# Altium schematic symbol library SamacSys.SchLib: 1311 symbols (part 5 of 14)
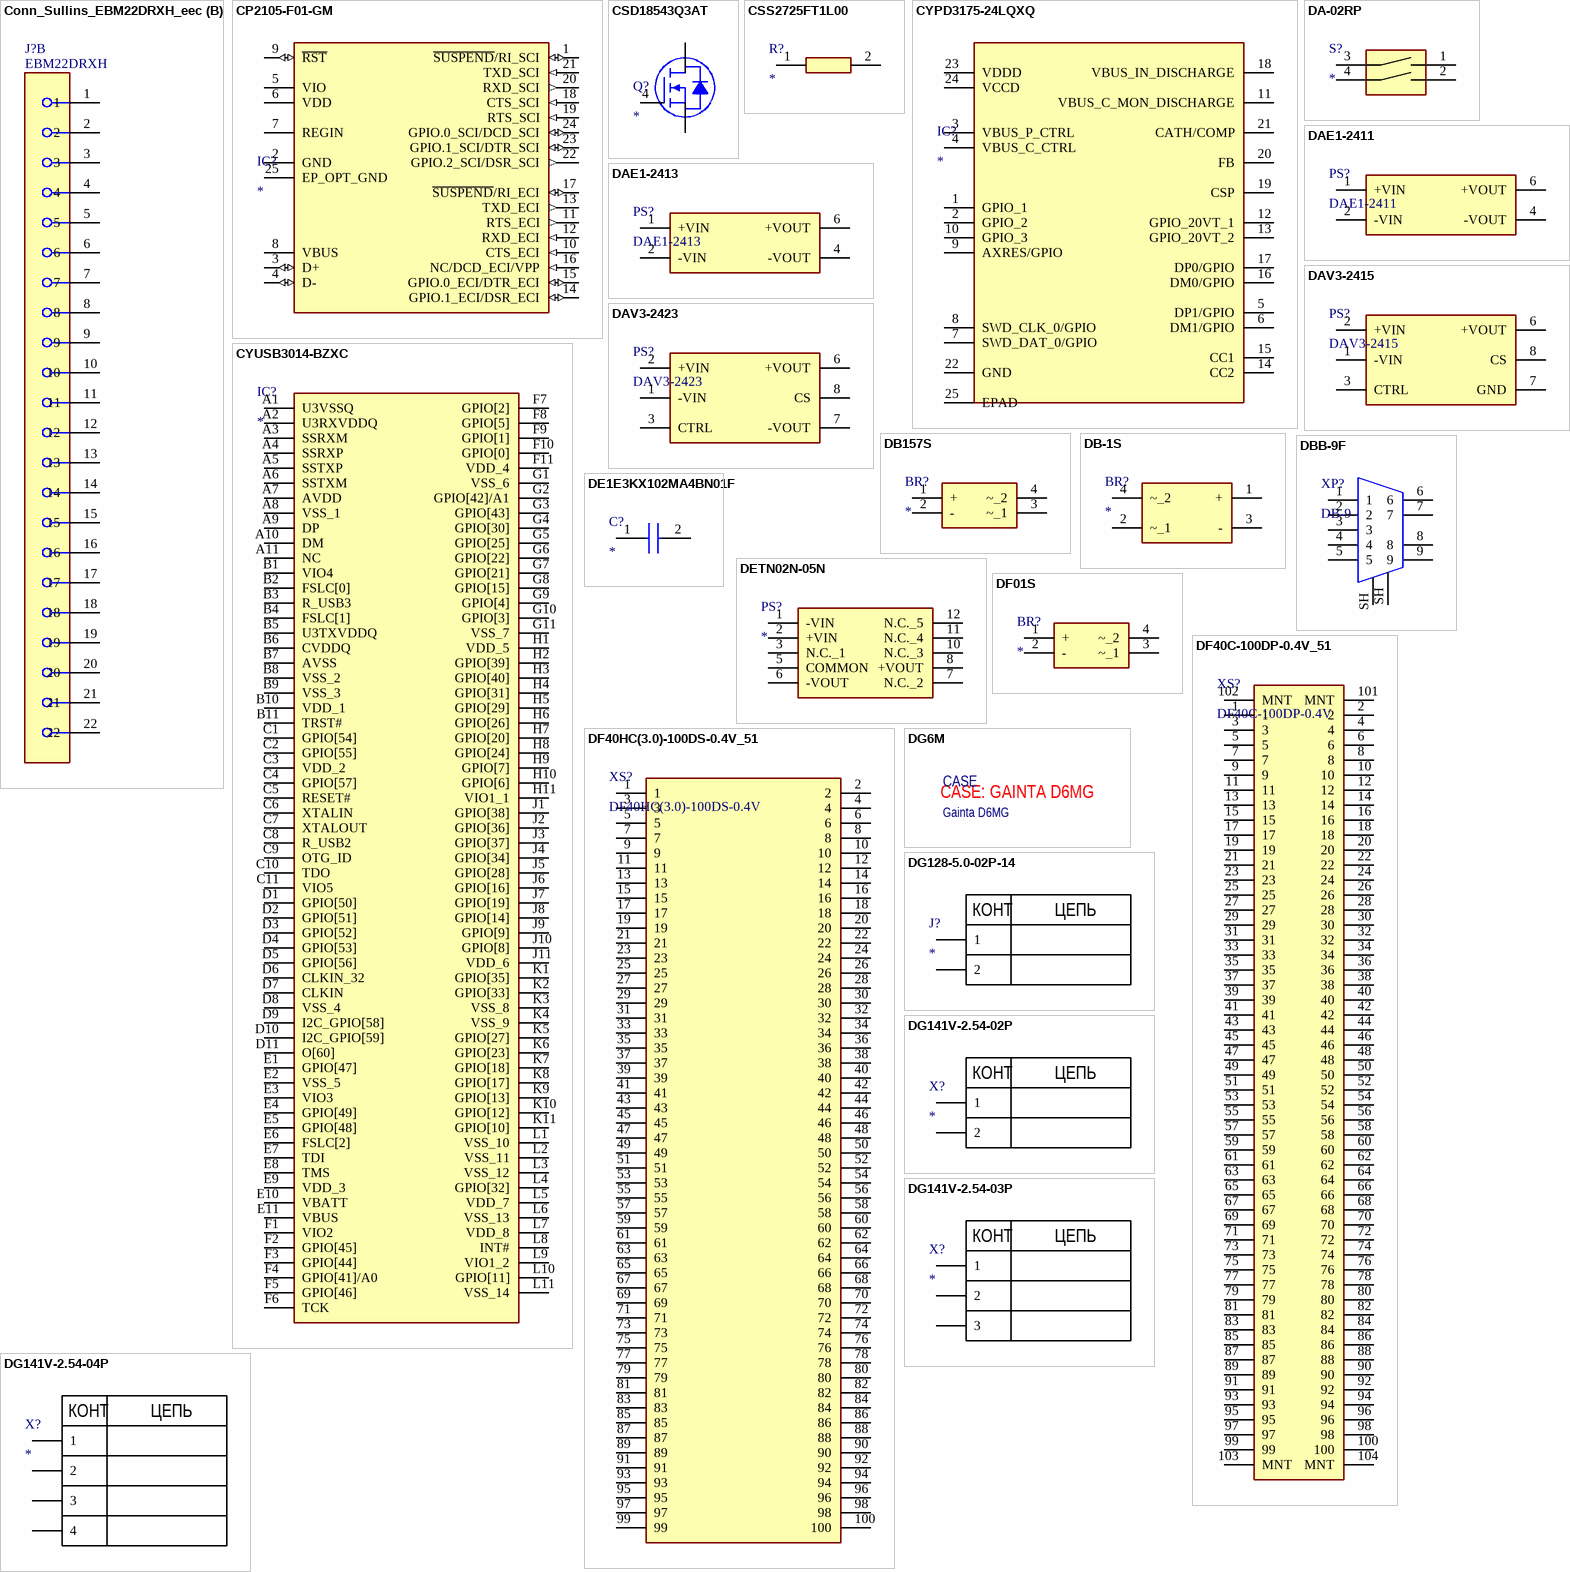
[diagram p54: symbols Conn_Sullins_EBM22DRXH_eec to DG141V-2.54-04P]

## DG6M
designator CASE, comment Gainta D6MG  (mechanical)
Plastic DIN-rail case; Value: Gainta D6MG; Manufacturer: Gainta; Part Number: D6MG; ComponentLink1Description: New link; ComponentLink1URL: https://static.chipdip.ru/lib/920/DOC023920435.pdf
text: CASE: GAINTA D6MG

## DG128-5.0-02P-14
designator J?
Connector; Manufacturer_Name: Degson; Manufacturer_Part_Number: DG128-5.0-02P-14; Datasheet Link: https://www.degson.com/index.php?a=downloadFile&id=1097383&name=%27ZmlsZTQ=%27&lang=en; Height: 14.26mm
footprint DG128-5.0-02P-14
pins: 1, 2
text: КОНТ; ЦЕПЬ

## DG141V-2.54-02P
designator X?
Connector; Manufacturer_Name: DEGSON; Manufacturer_Part_Number: DG141V-2.54-02P; Datasheet Link: file:///C:/Users/Golubev/Downloads/DG141V-2.54-XXP-1Y-00A(H)-l.pdf
footprint DG141V-02P
pins: 1, 2
text: КОНТ; ЦЕПЬ

## DG141V-2.54-03P
designator X?
Connector; Manufacturer_Name: DEGSON; Manufacturer_Part_Number: DG141V-2.54-04P; Datasheet Link: file:///C:/Users/Golubev/Downloads/DG141V-2.54-XXP-1Y-00A(H)-l.pdf
footprint DG141V-04P
pins: 1, 2, 3
text: КОНТ; ЦЕПЬ

## DG141V-2.54-04P
designator X?
Connector; Manufacturer_Name: DEGSON; Manufacturer_Part_Number: DG141V-2.54-04P; Datasheet Link: file:///C:/Users/Golubev/Downloads/DG141V-2.54-XXP-1Y-00A(H)-l.pdf
footprint DG141V-04P
pins: 1, 2, 3, 4
text: КОНТ; ЦЕПЬ

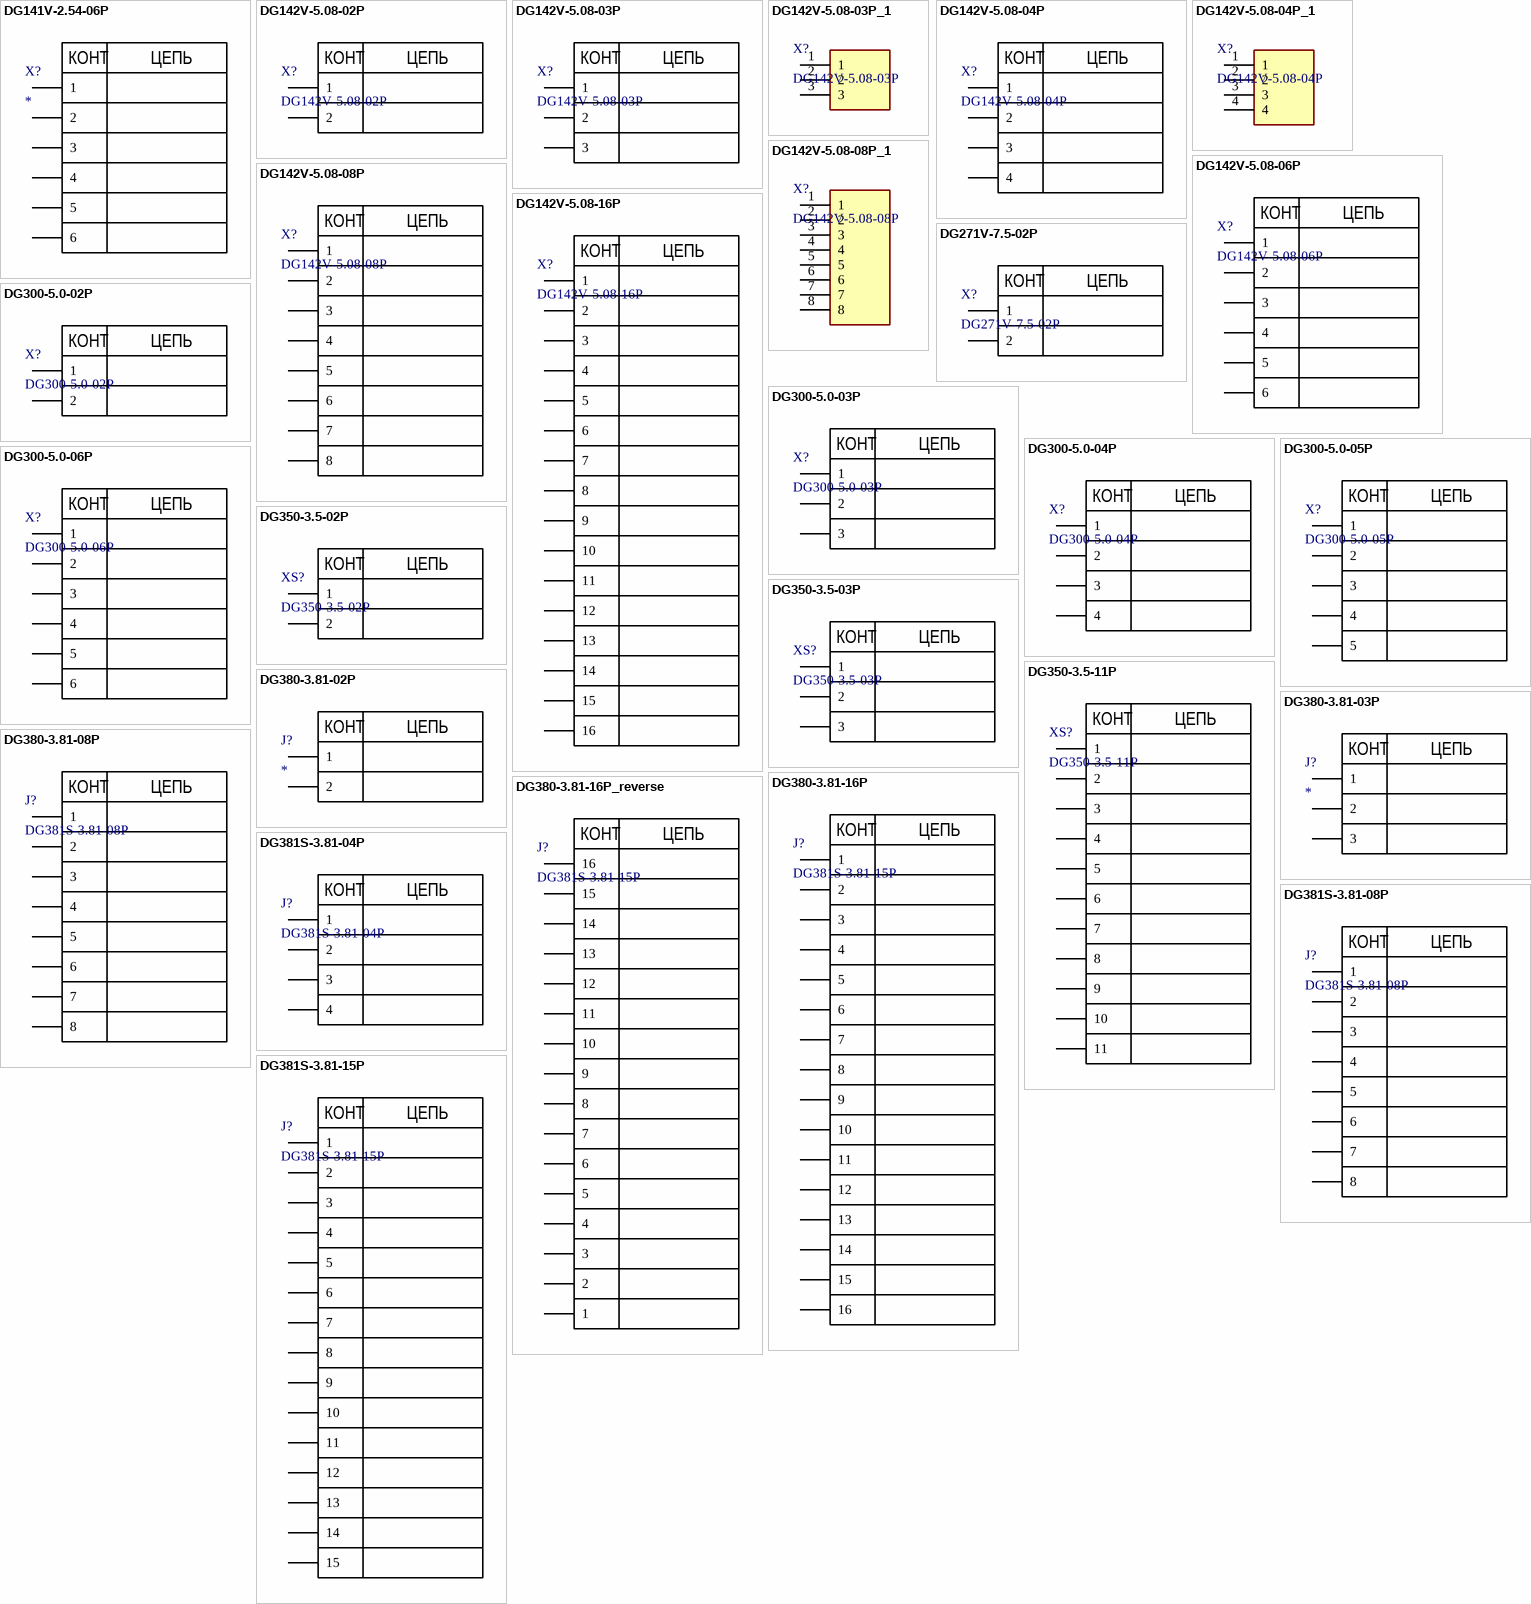
[diagram p13: symbols DG141V-2.54-06P to DG381S-3.81-15P]

## DG141V-2.54-06P
designator X?
Connector; Manufacturer_Name: DEGSON; Manufacturer_Part_Number: DG141V-2.54-06P; Datasheet Link: file:///C:/Users/Golubev/Downloads/DG141V-2.54-XXP-1Y-00A(H)-l.pdf
footprint DG141V-06P
pins: 1, 2, 3, 4, 5, 6
text: КОНТ; ЦЕПЬ

## DG142V-5.08-02P
designator X?
Connector; Manufacturer_Name: Degson; Datasheet Link: https://oss.degson.com/upload/pdf/20211003/20211003190604_7549.pdf; Height: 14.1mm; Manufacturer_Part_Number: DG142V-5.08-02P
footprint DG142V-5.08-02P; pin to pad 1>1+3 2>2+4
pins: 1, 2
text: КОНТ; ЦЕПЬ

## DG142V-5.08-03P
designator X?
Connector; Manufacturer_Name: Degson; Manufacturer_Part_Number: DG142V-5.08-02P; Datasheet Link: https://oss.degson.com/upload/pdf/20211003/20211003190604_7549.pdf; Height: 14.1mm
footprint DG142V-5.08-03P; pin to pad 1>1+4 2>2+5 3>3+6
pins: 1, 2, 3
text: КОНТ; ЦЕПЬ

## DG142V-5.08-03P_1
designator X?, comment DG142V-5.08-03P
Connector; Manufacturer_Name: Degson; Manufacturer_Part_Number: DG142V-5.08-02P; Datasheet Link: https://oss.degson.com/upload/pdf/20211003/20211003190604_7549.pdf; Height: 14.1mm
footprint DG142V-5.08-03P; pin to pad 1>1+4 2>2+5 3>3+6
pins: 1, 2, 3

## DG142V-5.08-04P
designator X?
Connector; Manufacturer_Name: Degson; Manufacturer_Part_Number: DG142V-5.08-02P; Datasheet Link: https://oss.degson.com/upload/pdf/20211003/20211003190604_7549.pdf; Height: 14.1mm
footprint DG142V-5.08-04P; pin to pad 1>1+5 2>2+6 3>3+7 4>4+8
pins: 1, 2, 3, 4
text: КОНТ; ЦЕПЬ

## DG142V-5.08-04P_1
designator X?, comment DG142V-5.08-04P
Connector; Manufacturer_Name: Degson; Manufacturer_Part_Number: DG142V-5.08-02P; Datasheet Link: https://oss.degson.com/upload/pdf/20211003/20211003190604_7549.pdf; Height: 14.1mm
footprint DG142V-5.08-04P; pin to pad 1>1+5 2>2+6 3>3+7 4>4+8
pins: 1, 2, 3, 4

## DG142V-5.08-06P
designator X?
Connector; Manufacturer_Name: Degson; Datasheet Link: https://oss.degson.com/upload/pdf/20211003/20211003190604_7549.pdf; Height: 14.1mm; Manufacturer_Part_Number: DG142V-5.08-06P
footprint DG142V-5.08-06P (Footprint not found); pin to pad 1>1+9 2>2+10 3>3+11 4>4+12 5>5+13 6>6+14
pins: 1, 2, 3, 4, 5, 6
text: КОНТ; ЦЕПЬ

## DG142V-5.08-08P
designator X?
Connector; Manufacturer_Name: Degson; Manufacturer_Part_Number: DG142V-5.08-02P; Datasheet Link: https://oss.degson.com/upload/pdf/20211003/20211003190604_7549.pdf; Height: 14.1mm
footprint DG142V-5.08-08P; pin to pad 1>1+9 2>2+10 3>3+11 4>4+12 5>5+13 6>6+14 7>7+15 8>8+16
pins: 1, 2, 3, 4, 5, 6, 7, 8
text: КОНТ; ЦЕПЬ

## DG142V-5.08-08P_1
designator X?, comment DG142V-5.08-08P
Connector; Manufacturer_Name: Degson; Manufacturer_Part_Number: DG142V-5.08-02P; Datasheet Link: https://oss.degson.com/upload/pdf/20211003/20211003190604_7549.pdf; Height: 14.1mm
footprint DG142V-5.08-08P; pin to pad 1>1+9 2>2+10 3>3+11 4>4+12 5>5+13 6>6+14 7>7+15 8>8+16
pins: 1, 2, 3, 4, 5, 6, 7, 8

## DG142V-5.08-16P
designator X?
Connector; Manufacturer_Name: Degson; Datasheet Link: https://oss.degson.com/upload/pdf/20211003/20211003190604_7549.pdf; Height: 14.1mm; Manufacturer_Part_Number: DG142V-5.08-16P
footprint DG142V-5.08-16P; pin to pad 1>1+17 2>2+18 3>3+19 4>4+20 5>5+21 6>6+22 7>7+23 8>8+24 9>9+25 10>10+26 11>11+27 12>12+28 13>13+29 14>14+30 15>15+31 16>16+32
pins: 1, 2, 3, 4, 5, 6, 7, 8, 9, 10, 11, 12, 13, 14, 15, 16
text: КОНТ; ЦЕПЬ

## DG271V-7.5-02P
designator X?
Connector; Manufacturer_Name: DEGSON; Manufacturer_Part_Number: DG271V-7.5-02P
footprint DG271V-02P (Footprint not found)
pins: 1, 2
text: КОНТ; ЦЕПЬ

## DG300-5.0-02P
designator X?
Connector Screw Type; Manufacturer_Name: DEGSON; Datasheet Link: https://www.degson.com/content/details_552_879439.html; Manufacturer_Part_Number: DG300-5.0-02P
footprint DG300-5.0-02P (Footprint not found)
pins: 1, 2
text: КОНТ; ЦЕПЬ

## DG300-5.0-03P
designator X?
Connector Screw Type; Manufacturer_Name: DEGSON; Datasheet Link: https://www.degson.com/content/details_552_879439.html; Manufacturer_Part_Number: DG300-5.0-03P
footprint DG300-5.0-03P (Footprint not found)
pins: 1, 2, 3
text: КОНТ; ЦЕПЬ

## DG300-5.0-04P
designator X?
Connector Screw Type; Manufacturer_Name: DEGSON; Datasheet Link: https://www.degson.com/content/details_552_879439.html; Manufacturer_Part_Number: DG300-5.0-04P
footprint DG300-5.0-04P
pins: 1, 2, 3, 4
text: КОНТ; ЦЕПЬ

## DG300-5.0-05P
designator X?
Connector Screw Type; Manufacturer_Name: DEGSON; Datasheet Link: https://www.degson.com/content/details_552_879439.html; Manufacturer_Part_Number: DG300-5.0-05P
footprint DG300-5.0-05P (Footprint not found)
pins: 1, 2, 3, 4, 5
text: КОНТ; ЦЕПЬ

## DG300-5.0-06P
designator X?
Connector Screw Type; Manufacturer_Name: DEGSON; Datasheet Link: https://www.degson.com/content/details_552_879439.html; Manufacturer_Part_Number: DG300-5.0-06P
footprint DG300-5.0-06P
pins: 1, 2, 3, 4, 5, 6
text: КОНТ; ЦЕПЬ

## DG350-3.5-02P
designator XS?
Connector, Screw Type; Manufacturer_Name: Degson; Datasheet Link: https://www.degson.com/index.php?a=downloadFile&id=1097383&name=%27ZmlsZTQ=%27&lang=en; Height: 14.26mm; Manufacturer_Part_Number: DG350-3.5-02P
footprint DG350-3.5-02P (Footprint not found)
pins: 1, 2
text: КОНТ; ЦЕПЬ

## DG350-3.5-03P
designator XS?
Connector Screw Type; Manufacturer_Name: Degson; Datasheet Link: https://www.degson.com/index.php?a=downloadFile&id=1097383&name=%27ZmlsZTQ=%27&lang=en; Height: 14.26mm; Manufacturer_Part_Number: DG350-3.5-03P
footprint DG350-3.5-03P (Footprint not found)
pins: 1, 2, 3
text: КОНТ; ЦЕПЬ

## DG350-3.5-11P
designator XS?
Connector Screw Type; Manufacturer_Name: Degson; Datasheet Link: https://www.degson.com/index.php?a=downloadFile&id=1097383&name=%27ZmlsZTQ=%27&lang=en; Height: 14.26mm; Manufacturer_Part_Number: DG350-3.5-11P
footprint DG350-3.5-11P (Footprint not found)
pins: 1, 2, 3, 4, 5, 6, 7, 8, 9, 10, 11
text: КОНТ; ЦЕПЬ

## DG380-3.81-02P
designator J?
Connector Screw Type; Manufacturer_Name: Degson; Manufacturer_Part_Number: DG128-5.0-02P-14; Datasheet Link: https://www.degson.com/index.php?a=downloadFile&id=1097383&name=%27ZmlsZTQ=%27&lang=en; Height: 14.26mm
footprint DG380-3.81-02P
pins: 1, 2
text: КОНТ; ЦЕПЬ

## DG380-3.81-03P
designator J?
Connector Screw Type; Manufacturer_Name: Degson; Manufacturer_Part_Number: DG128-5.0-02P-14; Datasheet Link: https://www.degson.com/index.php?a=downloadFile&id=1097383&name=%27ZmlsZTQ=%27&lang=en; Height: 14.26mm
footprint DG380-3.81-03P
pins: 1, 2, 3
text: КОНТ; ЦЕПЬ

## DG380-3.81-08P
designator J?, comment DG381S-3.81-08P
Connector Screw Type; Manufacturer_Name: Degson; Manufacturer_Part_Number: DG381S-3.81-15P; Datasheet Link: https://www.degson.com/index.php?a=downloadFile&id=1097383&name=%27ZmlsZTQ=%27&lang=en; Height: 14.26mm
footprint DG380-3.81-08P
pins: 1, 2, 3, 4, 5, 6, 7, 8
text: КОНТ; ЦЕПЬ

## DG380-3.81-16P
designator J?, comment DG381S-3.81-15P
Connector Screw Type; Manufacturer_Name: Degson; Datasheet Link: https://www.degson.com/index.php?a=downloadFile&id=1097383&name=%27ZmlsZTQ=%27&lang=en; Height: 14.26mm; Manufacturer_Part_Number: DG381S-3.81-15P
footprint DG380-3.81-16P (Footprint not found)
pins: 1, 2, 3, 4, 5, 6, 7, 8, 9, 10, 11, 12, 13, 14, 15, 16
text: КОНТ; ЦЕПЬ

## DG380-3.81-16P_reverse
designator J?, comment DG381S-3.81-15P
Connector Screw Type; Manufacturer_Name: Degson; Datasheet Link: https://www.degson.com/index.php?a=downloadFile&id=1097383&name=%27ZmlsZTQ=%27&lang=en; Height: 14.26mm; Manufacturer_Part_Number: DG381S-3.81-15P
footprint DG380-3.81-16P (Footprint not found)
pins: 1, 2, 3, 4, 5, 6, 7, 8, 9, 10, 11, 12, 13, 14, 15, 16
text: КОНТ; ЦЕПЬ

## DG381S-3.81-04P
designator J?
Connector Screw Type; Manufacturer_Name: Degson; Datasheet Link: https://www.degson.com/index.php?a=downloadFile&id=1097383&name=%27ZmlsZTQ=%27&lang=en; Height: 14.26mm; Manufacturer_Part_Number: DG381S-3.81-04P
footprint DG381S-3.81-04P
pins: 1, 2, 3, 4
text: КОНТ; ЦЕПЬ

## DG381S-3.81-08P
designator J?
Connector Screw Type; Manufacturer_Name: Degson; Datasheet Link: https://www.degson.com/index.php?a=downloadFile&id=1097383&name=%27ZmlsZTQ=%27&lang=en; Height: 14.26mm; Manufacturer_Part_Number: DG381S-3.81-08P
footprint DG381S-3.81-08P (Footprint not found)
pins: 1, 2, 3, 4, 5, 6, 7, 8
text: КОНТ; ЦЕПЬ

## DG381S-3.81-15P
designator J?
Connector Screw Type; Manufacturer_Name: Degson; Datasheet Link: https://www.degson.com/index.php?a=downloadFile&id=1097383&name=%27ZmlsZTQ=%27&lang=en; Height: 14.26mm; Manufacturer_Part_Number: DG381S-3.81-15P
footprint DG381S-3.81-15P
pins: 1, 2, 3, 4, 5, 6, 7, 8, 9, 10, 11, 12, 13, 14, 15
text: КОНТ; ЦЕПЬ

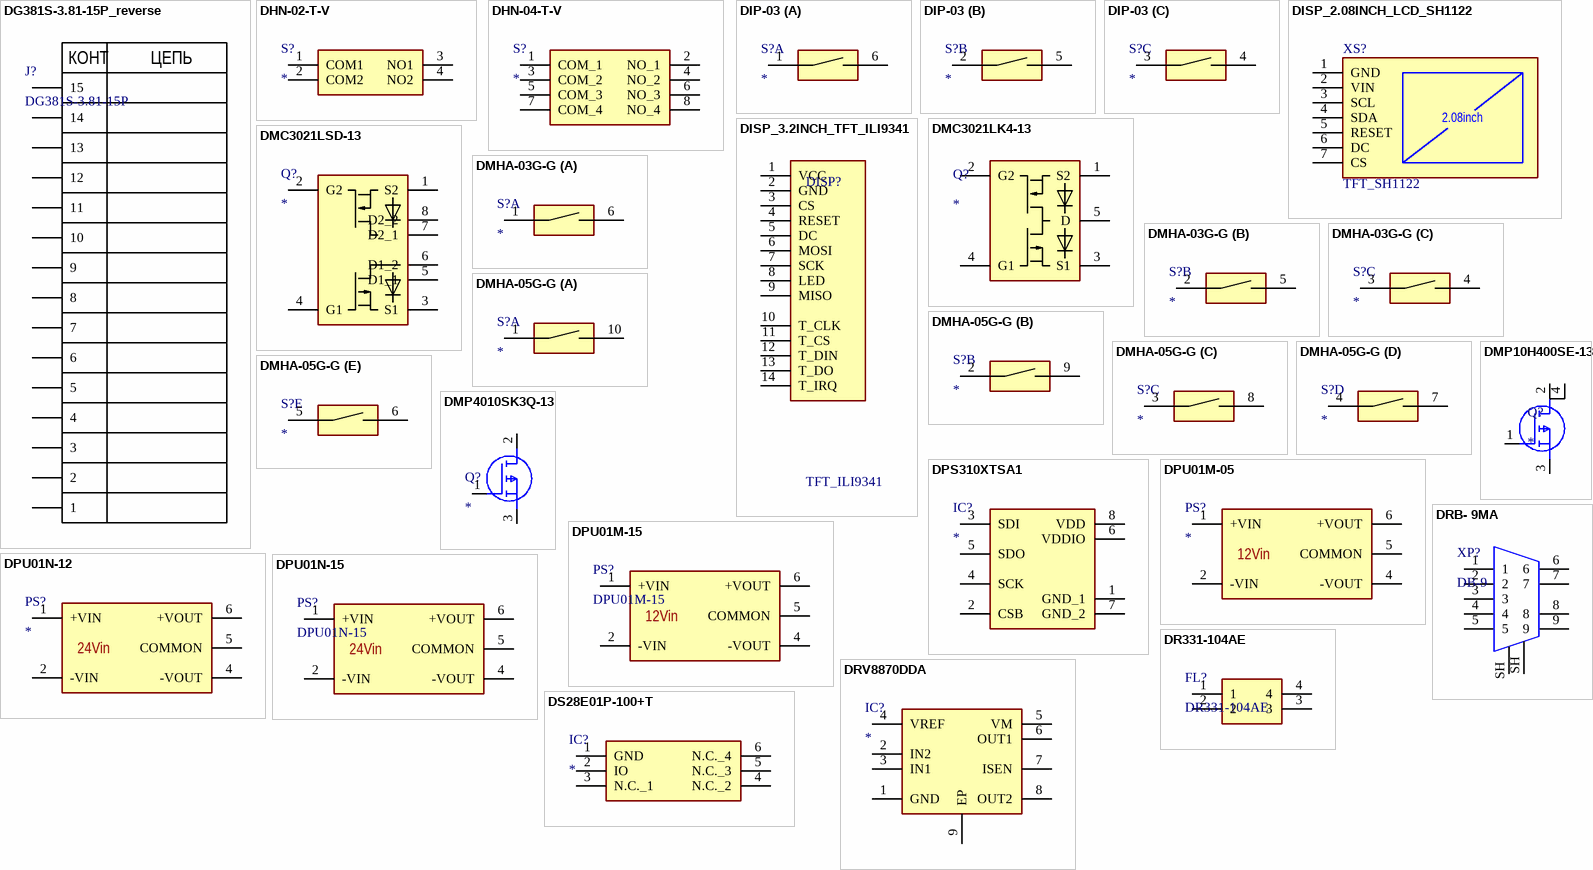
[diagram p14: symbols DG381S-3.81-15P_reverse to DS28E01P-100+T]

## DG381S-3.81-15P_reverse
designator J?, comment DG381S-3.81-15P
Connector Screw Type; Manufacturer_Name: Degson; Datasheet Link: https://www.degson.com/index.php?a=downloadFile&id=1097383&name=%27ZmlsZTQ=%27&lang=en; Height: 14.26mm; Manufacturer_Part_Number: DG381S-3.81-15P
footprint DG381S-3.81-15P
pins: 1, 2, 3, 4, 5, 6, 7, 8, 9, 10, 11, 12, 13, 14, 15
text: КОНТ; ЦЕПЬ

## DHN-02-T-V
designator S?
Switch; Manufacturer_Name: Diptronics; Manufacturer_Part_Number: DHN-02-T-V-T/R; Datasheet Link: http://www.dip.com.tw/en/en-product-information/en-switch002/item/download/2415_e7a9b0c4adbe9b7870fd4f532af821a1; Height: 1.65mm; Mouser Part Number: 113-DHN02TVTR; Mouser Price/Stock: https://www.mouser.co.uk/ProductDetail/Diptronics/DHN-02-T-V-T-R?qs=MLItCLRbWswdDj7DaIiUrw%3D%3D
footprint DHN02TVTR (Footprint not found)
pins: 1 COM1, 2 COM2, 3 NO1, 4 NO2

## DHN-04-T-V
designator S?
Switch; Manufacturer_Name: Diptronics; Manufacturer_Part_Number: DHN-04-T-V; Datasheet Link: https://componentsearchengine.com/Datasheets/1/DHN-04-T-V.pdf; Height: 1.65mm; Mouser Part Number: 113-DHN04TV; Mouser Price/Stock: https://www.mouser.co.uk/ProductDetail/Diptronics/DHN-04-T-V?qs=MLItCLRbWswbt%252B1%2FkyC9JQ%3D%3D
footprint DHN04TV
pins: 1 COM_1, 2 NO_1, 3 COM_2, 4 NO_2, 5 COM_3, 6 NO_3, 7 COM_4, 8 NO_4

## DIP-03
designator S?
DIP Switch 3P Blue; Manufacturer_Name: kangshen; Manufacturer_Part_Number: DSHP03TSGER; Datasheet Link: https://www.lcsc.com/datasheet/lcsc_datasheet_2411220116_kangshen-DSHP03TSGER_C3293143.pdf; Height: 6.6
footprint DSHP03 (DIP Switch SMD)
part A pins: 1, 6
part B pins: 2, 5
part C pins: 3, 4

## DISP_2.08INCH_LCD_SH1122
designator XS?, comment TFT_SH1122
DISP LCD module 2.08 inch SH1122
footprint OLED_SH1122
pins: 1 GND, 2 VIN, 3 SCL, 4 SDA, 5 RESET, 6 DC, 7 CS
text: 2.08inch

## DISP_3.2INCH_TFT_ILI9341
designator DISP?, comment TFT_ILI9341
Display TFT module 3.2 inch ILI9341
footprint QD-TFT3202
pins: 1 VCC, 2 GND, 3 CS, 4 RESET, 5 DC, 6 MOSI, 7 SCK, 8 LED, 9 MISO, 10 T_CLK, 11 T_CS, 12 T_DIN, 13 T_DO, 14 T_IRQ

## DMC3021LK4-13
designator Q?
Transistor; Manufacturer_Name: Diodes Inc.; Manufacturer_Part_Number: DMC3021LK4-13; Datasheet Link: https://datasheet.datasheetarchive.com/originals/distributors/Datasheets-DGA6/536689.pdf; Height: 2.39mm; Mouser Part Number: 621-DMC3021LK4-13; Mouser Price/Stock: https://www.mouser.co.uk/ProductDetail/Diodes-Incorporated/DMC3021LK4-13?qs=T%2FOtf55vL7c7jOM6kOfLjA%3D%3D; Arrow Part Number: DMC3021LK4-13; Arrow Price/Stock: https://www.arrow.com/en/products/dmc3021lk4-13/diodes-incorporated
footprint DMC3021LK413
pins: 1 S2, 2 G2, 3 S1, 4 G1, 5 D

## DMC3021LSD-13
designator Q?
Transistor; Manufacturer_Name: Diodes Inc.; Manufacturer_Part_Number: DMC3021LSD-13; Datasheet Link: https://www.diodes.com/assets/Datasheets/ds32152.pdf; Height: 1.75mm; Mouser Part Number: 621-DMC3021LSD-13; Mouser Price/Stock: https://www.mouser.co.uk/ProductDetail/Diodes-Incorporated/DMC3021LSD-13?qs=WZYOKEqGBpLz0mDfwbjxxA%3D%3D
footprint SOIC127P600X175-8N
pins: 1 S2, 2 G2, 3 S1, 4 G1, 5 D1_1, 6 D1_2, 7 D2_1, 8 D2_2

## DMHA-03G-G
designator S?
Switch SMD 5P; Manufacturer_Name: Switronic; Manufacturer_Part_Number: DMHA-03G-G; Height: 3.8
footprint DMHA-03G-G (Footprint not found)
part A pins: 1, 6
part B pins: 2, 5
part C pins: 3, 4

## DMHA-05G-G
designator S?
Switch SMD 5P; Manufacturer_Name: KLS; Manufacturer_Part_Number: KLS7-DST-04-R; Datasheet Link: https://www.klsconnector.com/wp-content/uploads/20200522104221KLS7-DST.pdf; Height: 6.6
footprint DMHA-05G-G
part A pins: 1, 10
part B pins: 2, 9
part C pins: 3, 8
part D pins: 4, 7
part E pins: 5, 6

## DMP10H400SE-13
designator Q?
MOSFET (P-Channel); Manufacturer_Name: Diodes Incorporated; Manufacturer_Part_Number: DMP10H400SE-13; Datasheet Link: https://www.farnell.com/datasheets/2814417.pdf; Height: 1.8mm; Mouser Part Number: 621-DMP10H400SE-13; Mouser Price/Stock: https://www.mouser.co.uk/ProductDetail/Diodes-Incorporated/DMP10H400SE-13?qs=RJIhqtkBntMfWDdd8%252BxbRg%3D%3D; Arrow Part Number: DMP10H400SE-13; Arrow Price/Stock: https://www.arrow.com/en/products/dmp10h400se-13/diodes-incorporated?region=nac
footprint SOT230P700X180-4N
pins: 1 G, 2 D, 3 S, 4 D

## DMP4010SK3Q-13
designator Q?
MOSFET (P-Channel); Manufacturer_Name: Diodes Inc.; Manufacturer_Part_Number: DMP4010SK3Q-13; Datasheet Link: https://www.diodes.com/assets/Datasheets/DMP4010SK3Q.pdf; Height: 2.39mm; Mouser Part Number: 621-DMP4010SK3Q-13; Mouser Price/Stock: https://www.mouser.co.uk/ProductDetail/Diodes-Incorporated/DMP4010SK3Q-13?qs=j1jvDfvplqJZnZw5VzpQGw%3D%3D; Arrow Part Number: DMP4010SK3Q-13; Arrow Price/Stock: https://www.arrow.com/en/products/dmp4010sk3q-13/diodes-incorporated
footprint SBR6100CTL13
pins: 1 G, 2 D, 3 S

## DPS310XTSA1
designator IC?
Integrated Circuit, Barometric Pressure Sensor; Manufacturer_Name: Infineon; Manufacturer_Part_Number: DPS310XTSA1; Datasheet Link: https://www.infineon.com/dgdl/Infineon-DPS310-DS-v01_00-EN.pdf?fileId=5546d462576f34750157750826c42242; Height: 1.01mm; Mouser Part Number: 726-DPS310XTSA1; Mouser Price/Stock: https://www.mouser.co.uk/ProductDetail/Infineon-Technologies/DPS310XTSA1?qs=uuTTuBTXn66Ynca8WHwycg%3D%3D; Arrow Part Number: DPS310XTSA1; Arrow Price/Stock: https://www.arrow.com/en/products/dps310xtsa1/infineon-technologies-ag?region=nac
footprint DPS310XTSA1
pins: 1 GND_1, 2 CSB, 3 SDI, 4 SCK, 5 SDO, 6 VDDIO, 7 GND_2, 8 VDD

## DPU01M-05
designator PS?
PS DC/DC, IN 10.8-13.2VDC, OUT +-5VDC; Manufacturer_Name: Mean Well; Manufacturer_Part_Number: DPU01M-05; Datasheet Link: https://datasheet.datasheetarchive.com/originals/distributors/DKDS-2/37035.pdf; Height: 10.45mm; Mouser Part Number: 709-DPU01M-05; Mouser Price/Stock: https://www.mouser.co.uk/ProductDetail/MEAN-WELL/DPU01M-05?qs=5aG0NVq1C4xCFuNj8bL%2Fhg%3D%3D; Arrow Part Number: DPU01M-05; Arrow Price/Stock: https://www.arrow.com/en/products/dpu01m-05/mean-well-enterprises?utm_currency=USD&region=nac
footprint DPU01
pins: 1 +VIN, 2 -VIN, 4 -VOUT, 5 COMMON, 6 +VOUT
text: 12Vin

## DPU01M-15
designator PS?
PS DC/DC, IN 10.8-13.2VDC, OUT +-15VDC; Manufacturer_Name: Mean Well; Datasheet Link: https://www.arrow.com/en/products/dpu01n-12/mean-well-enterprises; Height: 10.2mm; Manufacturer_Part_Number: DPU01M-15; Mouser Part Number: DPU01M-15; Mouser Price/Stock: https://www.mouser.co.uk/ProductDetail/MEAN-WELL/DPU01N-12?qs=5aG0NVq1C4yTyMl3DWRvqA%3D%3D; Arrow Part Number: DPU01M-15; Arrow Price/Stock: https://www.arrow.com/en/products/dpu01n-12/mean-well-enterprises
footprint DPU01
pins: 1 +VIN, 2 -VIN, 4 -VOUT, 5 COMMON, 6 +VOUT
text: 12Vin

## DPU01N-12
designator PS?
PS DC/DC, IN 21.6-26.4VDC, OUT +-12VDC; Manufacturer_Name: Mean Well; Manufacturer_Part_Number: DPU01N-12; Datasheet Link: https://www.arrow.com/en/products/dpu01n-12/mean-well-enterprises; Height: 10.2mm; Mouser Part Number: 709-DPU01N-12; Mouser Price/Stock: https://www.mouser.co.uk/ProductDetail/MEAN-WELL/DPU01N-12?qs=5aG0NVq1C4yTyMl3DWRvqA%3D%3D; Arrow Part Number: DPU01N-12; Arrow Price/Stock: https://www.arrow.com/en/products/dpu01n-12/mean-well-enterprises
footprint DPU01
pins: 1 +VIN, 2 -VIN, 4 -VOUT, 5 COMMON, 6 +VOUT
text: 24Vin

## DPU01N-15
designator PS?
PS DC/DC, IN 21.6-26.4VDC, OUT +-15VDC; Manufacturer_Name: Mean Well; Datasheet Link: https://www.arrow.com/en/products/dpu01n-12/mean-well-enterprises; Height: 10.2mm; Manufacturer_Part_Number: DPU01N-15; Mouser Part Number: DPU01N-15; Mouser Price/Stock: https://www.mouser.co.uk/ProductDetail/MEAN-WELL/DPU01N-12?qs=5aG0NVq1C4yTyMl3DWRvqA%3D%3D; Arrow Part Number: DPU01N-15; Arrow Price/Stock: https://www.arrow.com/en/products/dpu01n-12/mean-well-enterprises
footprint DPU01
pins: 1 +VIN, 2 -VIN, 4 -VOUT, 5 COMMON, 6 +VOUT
text: 24Vin

## DR331-104AE
designator FL?
CMC 470UH 500MA 2LN SMD; Manufacturer_Name: Bourns; Manufacturer_Part_Number: DR331-105BE; Datasheet Link: http://uk.rs-online.com/web/p/products/8749687; Mouser Part Number: 652-DR331-105BE; Mouser Price/Stock: https://www.mouser.co.uk/ProductDetail/Bourns/DR331-105BE?qs=CrTVAl0CcnKk6%252BoOsQlt3w%3D%3D; Arrow Part Number: DR331-105BE; Arrow Price/Stock: https://www.arrow.com/en/products/dr331-105be/bourns?utm_currency=USD&region=nac
footprint DR331
pins: 1, 2, 3, 4

## DRB- 9MA
designator XP?, comment DB-9
Connector, DB-9, PCB Right Angle; Manufacturer_Name: Connfly; Manufacturer_Part_Number: DBB-9F (DS1034-09F); Datasheet Link: https://static.chipdip.ru/lib/761/DOC000761659.pdf; System: Connector
footprint DRB-9MA_DS1037-9M
pins: 1, 2, 3, 4, 5, 6, 7, 8, 9, SH 9, SH 10

## DRV8870DDA
designator IC?
3.6-A Brushed DC Motor Driver (PWM Control); Manufacturer_Name: Texas Instruments; Manufacturer_Part_Number: DRV8870DDA; Datasheet Link: https://www.ti.com/lit/ds/symlink/drv8870.pdf?ts=1619515567456&ref_url=https%253A%252F%252Fwww.ti.com%252Fmotor-drivers%252Fbrushed-dc-bdc-drivers%252Fproducts.html; Height: 1.7mm; Mouser Part Number: 595-DRV8870DDA; Mouser Price/Stock: https://www.mouser.co.uk/ProductDetail/Texas-Instruments/DRV8870DDA?qs=Fobv33ltQGiS4dfPU1fBcw%3D%3D; Arrow Part Number: DRV8870DDA; Arrow Price/Stock: https://www.arrow.com/en/products/drv8870dda/texas-instruments?region=nac
footprint SOIC127P600X170-9N
pins: 1 GND, 2 IN2, 3 IN1, 4 VREF, 5 VM, 6 OUT1, 7 ISEN, 8 OUT2, 9 EP

## DS28E01P-100+T
designator IC?
Integrated Circuit; Manufacturer_Name: Analog Devices; Manufacturer_Part_Number: DS28E01P-100+T; Datasheet Link: https://datasheets.maximintegrated.com/en/ds/DS28E01-100.pdf; Height: 1.5mm; Mouser Part Number: 700-DS28E01P-100+T; Mouser Price/Stock: https://www.mouser.co.uk/ProductDetail/Analog-Devices-Maxim-Integrated/DS28E01P-100%2bT?qs=U8%2FOE6X5Fv%2F68qF%252BXjcMvQ%3D%3D; Arrow Part Number: DS28E01P-100+T; Arrow Price/Stock: https://www.arrow.com/en/products/ds28e01p-100t/maxim-integrated?region=nac
footprint DS28E01P100T
pins: 1 GND, 2 IO, 3 N.C._1, 4 N.C._2, 5 N.C._3, 6 N.C._4

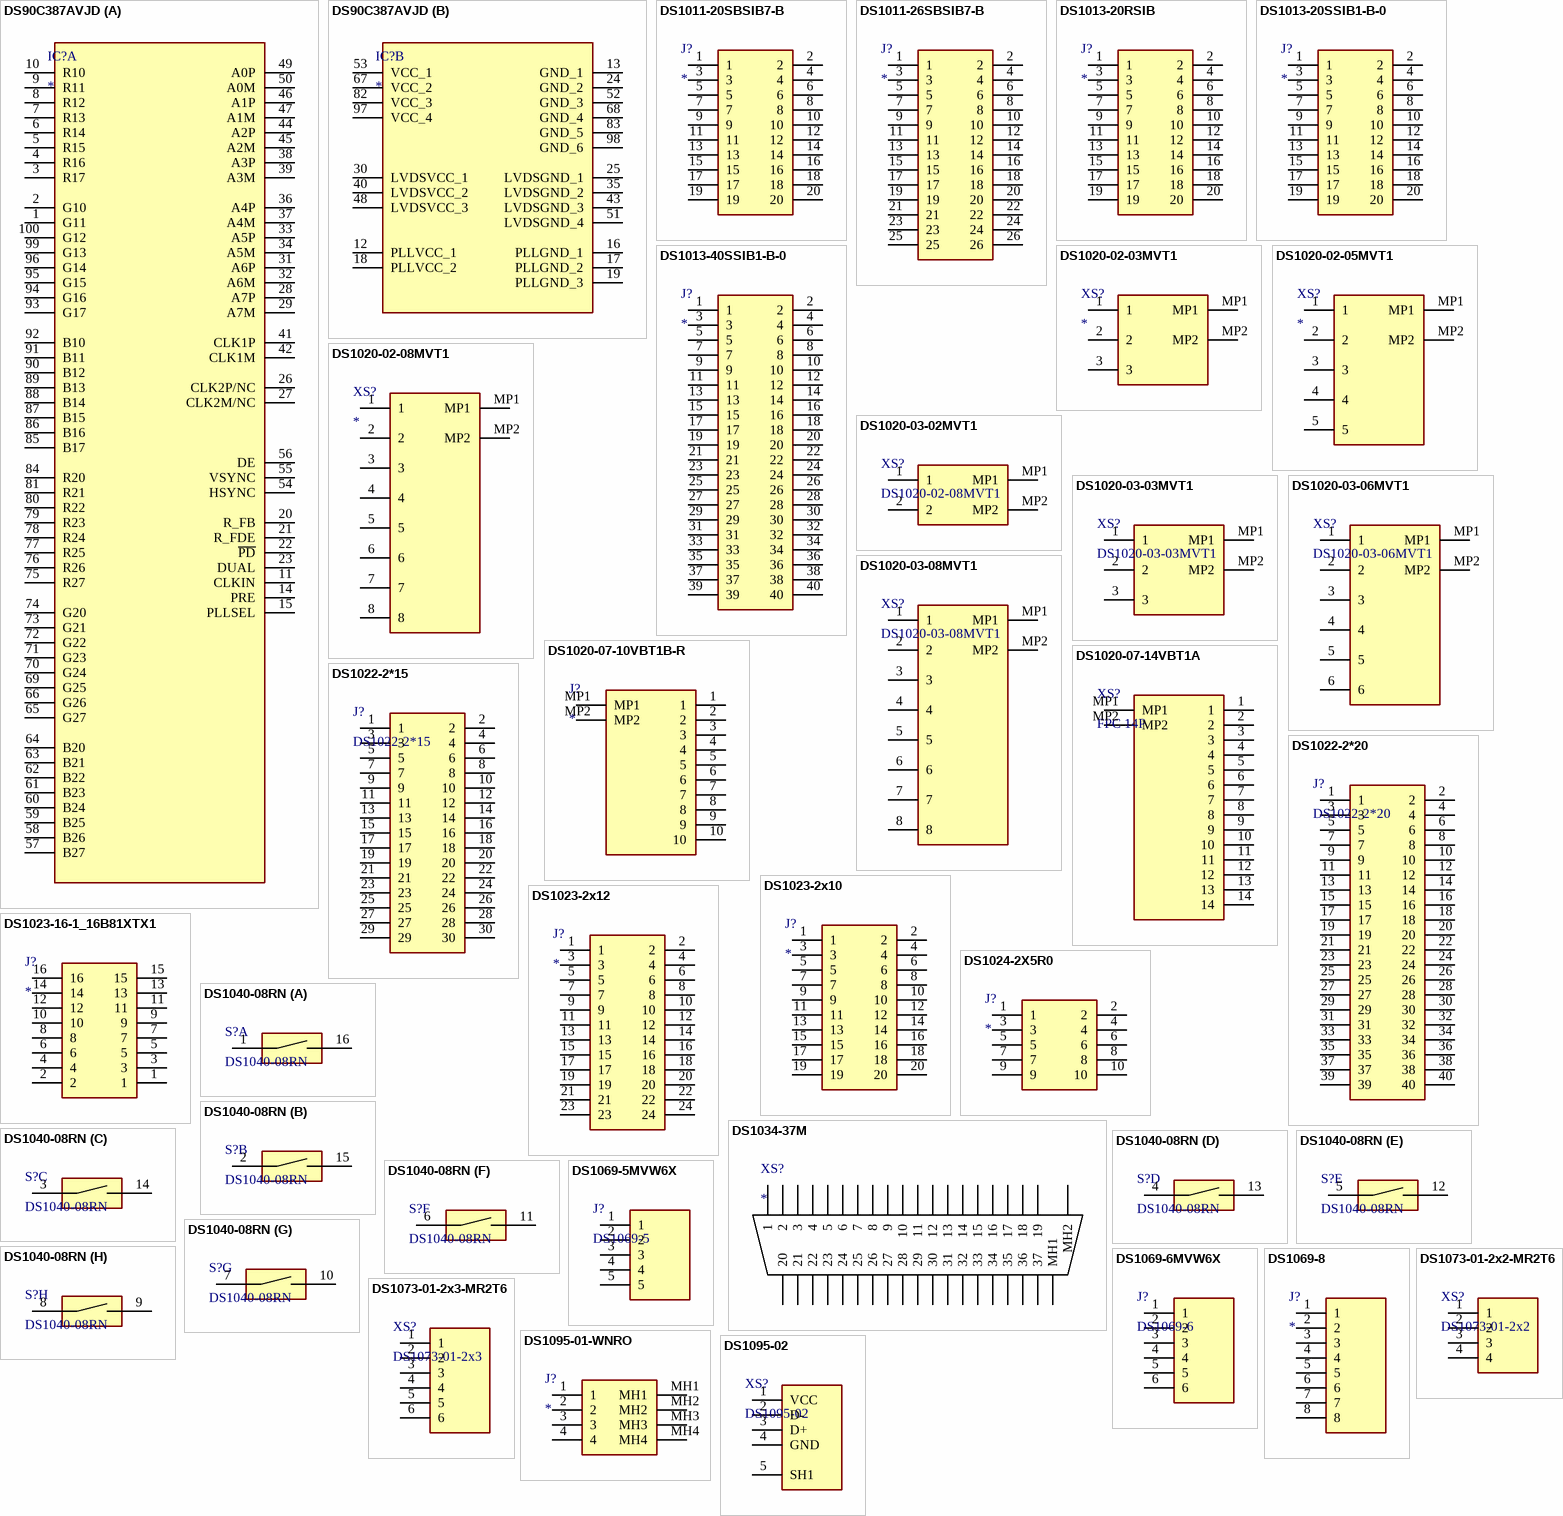
[diagram p15: symbols DS90C387AVJD to DS1095-02]

## DS90C387AVJD
designator IC?
Integrated Circuit; Manufacturer_Name: Texas Instruments; Manufacturer_Part_Number: DS90C387AVJD; Datasheet Link: https://www.ti.com/lit/gpn/DS90C387A; Height: 1.2mm; Mouser Part Number: 926-DS90C387AVJD; Mouser Price/Stock: https://www.mouser.co.uk/ProductDetail/Texas-Instruments/DS90C387AVJD?qs=7X5t%252BdzoRHBiEdfCkch%2FBQ%3D%3D
footprint QFP50P1600X1600X120-100N
part A pins: 1 G11, 2 G10, 3 R17, 4 R16, 5 R15, 6 R14, 7 R13, 8 R12, 9 R11, 10 R10, 11 CLKIN, 14 PRE, 15 PLLSEL, 20 R_FB, 21 R_FDE, 22 ~{PD}, 23 DUAL, 26 CLK2P/NC, 27 CLK2M/NC, 28 A7P, 29 A7M, 31 A6P, 32 A6M, 33 A5P, 34 A5M, 36 A4P, 37 A4M, 38 A3P, 39 A3M, 41 CLK1P, 42 CLK1M, 44 A2P, 45 A2M, 46 A1P, 47 A1M, 49 A0P, 50 A0M, 54 HSYNC, 55 VSYNC, 56 DE, 57 B27, 58 B26, 59 B25, 60 B24, 61 B23, 62 B22, 63 B21, 64 B20, 65 G27, 66 G26, 69 G25, 70 G24, 71 G23, 72 G22, 73 G21, 74 G20, 75 R27, 76 R26, 77 R25, 78 R24, 79 R23, 80 R22, 81 R21, 84 R20, 85 B17, 86 B16, 87 B15, 88 B14, 89 B13, 90 B12, 91 B11, 92 B10, 93 G17, 94 G16, 95 G15, 96 G14, 99 G13, 100 G12
part B pins: 12 PLLVCC_1, 13 GND_1, 16 PLLGND_1, 17 PLLGND_2, 18 PLLVCC_2, 19 PLLGND_3, 24 GND_2, 25 LVDSGND_1, 30 LVDSVCC_1, 35 LVDSGND_2, 40 LVDSVCC_2, 43 LVDSGND_3, 48 LVDSVCC_3, 51 LVDSGND_4, 52 GND_3, 53 VCC_1, 67 VCC_2, 68 GND_4, 82 VCC_3, 83 GND_5, 97 VCC_4, 98 GND_6

## DS1011-20SBSIB7-B
designator J?
Connector; Manufacturer_Name: CONNFLY Elec; Manufacturer_Part_Number: DS1011-20SBSIB7-B; Datasheet Link: http://en.connfly.group/static/upload/file//DS1011.pdf; Height: 28.25mm
footprint DS101120SBSIB7B
pins: 1, 2, 3, 4, 5, 6, 7, 8, 9, 10, 11, 12, 13, 14, 15, 16, 17, 18, 19, 20

## DS1011-26SBSIB7-B
designator J?
Connector; Manufacturer_Name: CONNFLY Elec; Manufacturer_Part_Number: DS1011-20SBSIB7-B; Datasheet Link: http://en.connfly.group/static/upload/file//DS1011.pdf; Height: 28.25mm
footprint DS101126SBSIB7B (Footprint not found)
pins: 1, 2, 3, 4, 5, 6, 7, 8, 9, 10, 11, 12, 13, 14, 15, 16, 17, 18, 19, 20, 21, 22, 23, 24, 25, 26

## DS1013-20RSIB
designator J?
Connector; Manufacturer_Name: Connfly; Manufacturer_Part_Number: DS1013-20RSIB; Datasheet Link: https://cdn.ozdisan.com/ETicaret_Dosya/346528_6335485.pdf; Height: 9.48mm
footprint SHDRRA20W69P254X254_2X10_3300X930X948P
pins: 1, 2, 3, 4, 5, 6, 7, 8, 9, 10, 11, 12, 13, 14, 15, 16, 17, 18, 19, 20

## DS1013-20SSIB1-B-0
designator J?
Connector; Manufacturer_Name: Connfly; Manufacturer_Part_Number: DS1013-20SSIB1-B-0; Datasheet Link: https://www.tme.eu/Document/e9117e1c80532ff2c20cc520b4694ed9/DS1013.pdf; Height: 9.55mm
footprint SHDR20W69P254X254_2X10_3300X910X955P (Footprint not found)
pins: 1, 2, 3, 4, 5, 6, 7, 8, 9, 10, 11, 12, 13, 14, 15, 16, 17, 18, 19, 20

## DS1013-40SSIB1-B-0
designator J?
Connector; Manufacturer_Name: Connfly; Manufacturer_Part_Number: DS1013-40SSIB1-B-0; Datasheet Link: https://en.connfly.com/static/upload/file/pdf/DS1013.pdf; Height: 9.48mm
footprint DS101340SSIB1B0
pins: 1, 2, 3, 4, 5, 6, 7, 8, 9, 10, 11, 12, 13, 14, 15, 16, 17, 18, 19, 20, 21, 22, 23, 24, 25, 26, 27, 28, 29, 30, 31, 32, 33, 34, 35, 36, 37, 38, 39, 40

## DS1020-02-03MVT1
designator XS?
Connector; Manufacturer_Name: Connfly; Manufacturer_Part_Number: DS1020-02-03MVT1; Datasheet Link: https://en.connfly.com/static/upload/file//DS1020-02.pdf
footprint DS1020-02-03MVT1
pins: 1, 2, 3, MP1, MP2

## DS1020-02-05MVT1
designator XS?
Connector; Manufacturer_Name: Connfly; Manufacturer_Part_Number: DS1020-02-05MVT1; Datasheet Link: https://en.connfly.com/static/upload/file//DS1020-02.pdf
footprint DS1020-02-05MVT1
pins: 1, 2, 3, 4, 5, MP1, MP2

## DS1020-02-08MVT1
designator XS?
Connector; Manufacturer_Name: Connfly; Manufacturer_Part_Number: DS1020-02-08MVT1; Datasheet Link: https://en.connfly.com/static/upload/file//DS1020-02.pdf
footprint DS1020-02-08MVT1
pins: 1, 2, 3, 4, 5, 6, 7, 8, MP1, MP2

## DS1020-03-02MVT1
designator XS?, comment DS1020-02-08MVT1
CONN 1.25mm Wafer V/T SMT & Crimp Type; Manufacturer_Name: Connfly; Manufacturer_Part_Number: DS1020-03-02MVT1; Datasheet Link: https://en.connfly.com/static/upload/file//DS1020-02.pdf
footprint DS1020-03-02MVT1 (Molex 53398-4002)
pins: 1, 2, MP1, MP2

## DS1020-03-03MVT1
designator XS?
CONN 1.25mm Wafer V/T SMT & Crimp Type; Manufacturer_Name: Connfly; Datasheet Link: https://en.connfly.com/static/upload/file//DS1020-02.pdf; Manufacturer_Part_Number: DS1020-03-03MVT1
footprint DS1020-03-03MVT1 (Molex 53398-4002)
pins: 1, 2, 3, MP1, MP2

## DS1020-03-06MVT1
designator XS?
CONN 1.25mm Wafer V/T SMT & Crimp Type; Manufacturer_Name: Connfly; Datasheet Link: https://en.connfly.com/static/upload/file//DS1020-02.pdf; Manufacturer_Part_Number: DS1020-03-06MVT1
footprint DS1020-03-06MVT1 (Molex 53398-4008 / Molex 53398-0871)
pins: 1, 2, 3, 4, 5, 6, MP1, MP2

## DS1020-03-08MVT1
designator XS?
CONN 1.25mm Wafer V/T SMT & Crimp Type; Manufacturer_Name: Connfly; Datasheet Link: https://en.connfly.com/static/upload/file//DS1020-02.pdf; Manufacturer_Part_Number: DS1020-03-08MVT1
footprint DS1020-03-08MVT1 (Molex 53398-4008)
pins: 1, 2, 3, 4, 5, 6, 7, 8, MP1, MP2

## DS1020-07-10VBT1B-R
designator J?
Connector; Manufacturer_Name: CONNFLY Elec; Manufacturer_Part_Number: DS1020-07-10VBT1B-R; Datasheet Link: http://en.connfly.group/static/upload/file/pdf/DS1020-07.pdf; Height: 2.75mm
footprint DS10200710VBT1BR
pins: 1, 2, 3, 4, 5, 6, 7, 8, 9, 10, MP1, MP2

## DS1020-07-14VBT1A
designator XS?, comment FPC 14P
Connector FPC 14P 1mm; Manufacturer_Name: CONNFLY Elec; Manufacturer_Part_Number: DS1020-07-10VBT1B-R; Datasheet Link: http://en.connfly.group/static/upload/file/pdf/DS1020-07.pdf; Height: 2.75mm
footprint DS10200714VBT
pins: 1, 2, 3, 4, 5, 6, 7, 8, 9, 10, 11, 12, 13, 14, MP1, MP2

## DS1022-2*15
designator J?
SMT header, 2x15
footprint DS1022-04-2x15 (Footprint not found)
pins: 1, 2, 3, 4, 5, 6, 7, 8, 9, 10, 11, 12, 13, 14, 15, 16, 17, 18, 19, 20, 21, 22, 23, 24, 25, 26, 27, 28, 29, 30

## DS1022-2*20
designator J?
SMT header, 2x20
footprint DS1022-04-2x20
pins: 1, 2, 3, 4, 5, 6, 7, 8, 9, 10, 11, 12, 13, 14, 15, 16, 17, 18, 19, 20, 21, 22, 23, 24, 25, 26, 27, 28, 29, 30, 31, 32, 33, 34, 35, 36, 37, 38, 39, 40

## DS1023-2x10
designator J?
Connector; Manufacturer_Name: Connfly; Manufacturer_Part_Number: DS1023-2*8S21; Datasheet Link: https://www.tme.eu/Document/efd0203e2d3a140765df98191085ea88/DS1023.pdf; Height: 8.5mm
footprint RHDR20W60P254_2X10
pins: 1, 2, 3, 4, 5, 6, 7, 8, 9, 10, 11, 12, 13, 14, 15, 16, 17, 18, 19, 20

## DS1023-2x12
designator J?
Connector; Manufacturer_Name: Connfly; Manufacturer_Part_Number: DS1023-2*8S21; Datasheet Link: https://www.tme.eu/Document/efd0203e2d3a140765df98191085ea88/DS1023.pdf; Height: 8.5mm
footprint RHDR24W60P254_2X12
pins: 1, 2, 3, 4, 5, 6, 7, 8, 9, 10, 11, 12, 13, 14, 15, 16, 17, 18, 19, 20, 21, 22, 23, 24

## DS1023-16-1_16B81XTX1
designator J?
Connector; Manufacturer_Name: Connfly; Manufacturer_Part_Number: DS1023-16-1*16B81XTX1
footprint DS102316116B81XTX1
pins: 1, 2, 3, 4, 5, 6, 7, 8, 9, 10, 11, 12, 13, 14, 15, 16

## DS1024-2X5R0
designator J?
Connector; Manufacturer_Name: Connfly; Manufacturer_Part_Number: DS1024-2X5R0; Datasheet Link: http://cn.connfly.group/static/upload/file/pdf/DS1024.pdf; Height: 5.25mm
footprint RHDRRA10W60P254X254_2X5_1320X850X525P
pins: 1, 2, 3, 4, 5, 6, 7, 8, 9, 10

## DS1034-37M
designator XS?
Connector, DB37; Manufacturer_Name: Connfly; Manufacturer_Part_Number: DS1034-37M; Datasheet Link: https://static.chipdip.ru/lib/638/DOC046638059.pdf; Height: 12.23mm
footprint DS1034-37M
pins: 1, 2, 3, 4, 5, 6, 7, 8, 9, 10, 11, 12, 13, 14, 15, 16, 17, 18, 19, 20, 21, 22, 23, 24, 25, 26, 27, 28, 29, 30, 31, 32, 33, 34, 35, 36, 37, MH1, MH2

## DS1040-08RN
designator S?
DIP Switch 8P; Manufacturer_Name: KLS; Manufacturer_Part_Number: KLS7-DST-04-R; Datasheet Link: https://www.klsconnector.com/wp-content/uploads/20200522104221KLS7-DST.pdf; Height: 6.6
footprint KLS7-DS08-B
part A pins: 1, 16
part B pins: 2, 15
part C pins: 3, 14
part D pins: 4, 13
part E pins: 5, 12
part F pins: 6, 11
part G pins: 7, 10
part H pins: 8, 9

## DS1069-5MVW6X
designator J?, comment DS1069-5
Connector; Manufacturer_Name: Connfly; Datasheet Link: https://static.chipdip.ru/lib/525/DOC059525714.pdf; Height: 7mm; Manufacturer_Part_Number: DS1069-5
footprint DS1069-5 (Footprint not found)
pins: 1, 2, 3, 4, 5

## DS1069-6MVW6X
designator J?, comment DS1069-6
Connector; Manufacturer_Name: Connfly; Datasheet Link: https://static.chipdip.ru/lib/525/DOC059525714.pdf; Height: 7mm; Manufacturer_Part_Number: DS1069-6
footprint DS1069-6
pins: 1, 2, 3, 4, 5, 6

## DS1069-8
designator J?
Connector; Manufacturer_Name: Connfly; Manufacturer_Part_Number: DS1069-8; Datasheet Link: https://static.chipdip.ru/lib/413/DOC001413777.pdf; Height: 7mm
footprint SHDR8W64P0X250_1X8_2240X575X700P
pins: 1, 2, 3, 4, 5, 6, 7, 8

## DS1073-01-2x2-MR2T6
designator XS?, comment DS1073-01-2x2
Connector, MF2x2MRA; Manufacturer_Name: Connfly; Datasheet Link: https://static.chipdip.ru/lib/525/DOC059525714.pdf; Height: 7mm; Manufacturer_Part_Number: DS1073-01
footprint DS1073-01-2x2 (Molex Mini-FIT, P=4.2mm)
pins: 1, 2, 3, 4

## DS1073-01-2x3-MR2T6
designator XS?, comment DS1073-01-2x3
Connector, MF2x3MRA; Manufacturer_Name: Connfly; Datasheet Link: https://static.chipdip.ru/lib/525/DOC059525714.pdf; Height: 7mm; Manufacturer_Part_Number: DS1073-01
footprint DS1073-01-2x3 (Footprint not found)
pins: 1, 2, 3, 4, 5, 6

## DS1095-01-WNRO
designator J?
Connector; Manufacturer_Name: Connfly; Manufacturer_Part_Number: DS1095-01-WNRO; Height: 14.5mm
footprint DS109501WNRO (Footprint not found)
pins: 1, 2, 3, 4, MH1, MH2, MH3, MH4

## DS1095-02
designator XS?
USB 2.0 Type-A Horisontal SMD Connector; Manufacturer_Name: Connfly; Datasheet Link: https://en.connfly.com/static/upload/file/pdf/DS1095-08.pdf; Manufacturer_Part_Number: DS1095-02
footprint DS1095-02 (Footprint not found)
pins: 1 VCC, 2 D-, 3 D+, 4 GND, 5 SH1

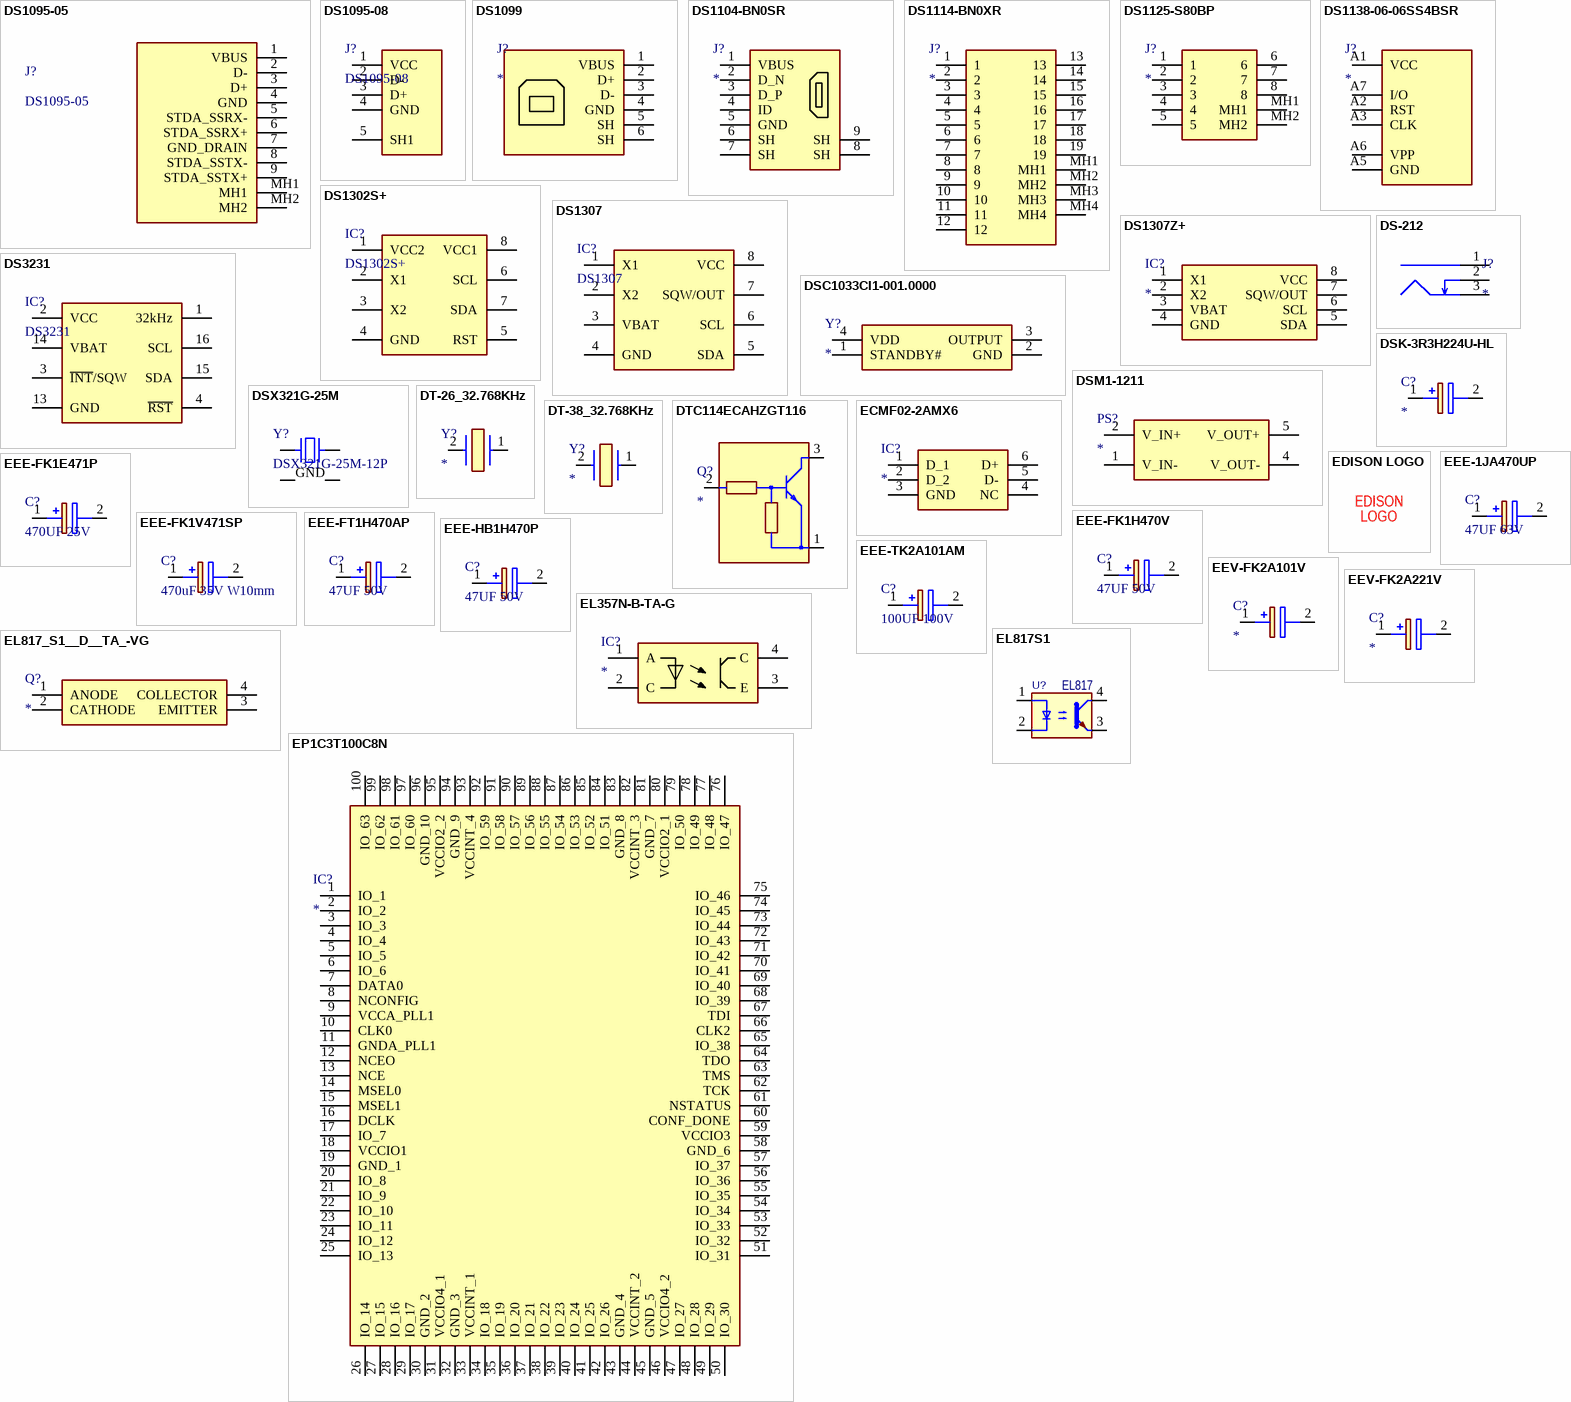
[diagram p16: symbols DS1095-05 to EP1C3T100C8N]

## DS1095-05
designator J?
USB 3.0 Connector, Type A; Manufacturer_Name: Connfly; Datasheet Link: https://static.chipdip.ru/lib/360/DOC016360676.pdf; Height: 7.2mm; Manufacturer_Part_Number: DS1095-05
footprint DS1095-05
pins: 1 VBUS, 2 D-, 3 D+, 4 GND, 5 STDA_SSRX-, 6 STDA_SSRX+, 7 GND_DRAIN, 8 STDA_SSTX-, 9 STDA_SSTX+, MH1, MH2

## DS1095-08
designator J?
USB 2.0 Type-A Vertical Connector; Manufacturer_Name: Connfly; Datasheet Link: https://en.connfly.com/static/upload/file/pdf/DS1095-08.pdf; Manufacturer_Part_Number: DS1095-08
footprint DS1095-08 (Footprint not found)
pins: 1 VCC, 2 D-, 3 D+, 4 GND, 5 SH1

## DS1099
designator J?
USB 2.0 Type B; Manufacturer_Name: Connfly; Manufacturer_Part_Number: DS1099; Datasheet Link: https://static.chipdip.ru/lib/402/DOC014402409.pdf
footprint DS1099 (USB Type B)
pins: 1 VBUS, 2 D+, 3 D-, 4 GND, 5 SH, 6 SH

## DS1104-BN0SR
designator J?
Mini USB, SMD, Right Angle; Manufacturer_Name: Connfly; Manufacturer_Part_Number: DS1104-BN0SR; Datasheet Link: https://www.tme.eu/en/Document/609ffd1fdbc4bea9351dc791fd9a9696/musb-g5p.pdf; Height: 3.95mm
footprint DS1104BN0SR
pins: 1 VBUS, 2 D_N, 3 D_P, 4 ID, 5 GND, 6 SH, 7 SH, 8 SH, 9 SH

## DS1114-BN0XR
designator J?
Connector, HDMI; Manufacturer_Name: Connfly; Manufacturer_Part_Number: DS1114-BN0XR; Datasheet Link: https://www.tme.eu/Document/e5eb14fdda0b30b714124f3620810438/DS1114.pdf; Height: 6.32mm
footprint DS1114BN0XR (Footprint not found)
pins: 1, 2, 3, 4, 5, 6, 7, 8, 9, 10, 11, 12, 13, 14, 15, 16, 17, 18, 19, MH1, MH2, MH3, MH4

## DS1125-S80BP
designator J?
Connector, RJ-45; Manufacturer_Name: Connfly; Manufacturer_Part_Number: DS1125-S80BP; Datasheet Link: https://img.ozdisan.com/ETicaret_Dosya/465191_8531010.PDF; Height: 12.58mm
footprint DS1125S80BP
pins: 1, 2, 3, 4, 5, 6, 7, 8, MH1, MH2

## DS1138-06-06SS4BSR
designator J?
SIM card socket; Manufacturer_Name: Connfly; Manufacturer_Part_Number: DS1138-06-06SS4BSR; Datasheet Link: https://datasheet.lcsc.com/szlcsc/1811031920_CONNFLY-Elec-DS1138-06-06SS4BSR_C96105.pdf; Height: 2.1mm
footprint DS11380606SS4BSR
pins: A1 VCC, A2 RST, A3 CLK, A5 GND, A6 VPP, A7 I/O

## DS1302S+
designator IC?
RTC chip, battery input; Manufacturer_Name: Analog Devices; Datasheet Link: https://datasheets.maximintegrated.com/en/ds/DS1302.pdf; Height: 2.28mm; Manufacturer_Part_Number: DS1302S+; Mouser Part Number: 700-DS1302S; Mouser Price/Stock: https://www.mouser.co.uk/ProductDetail/Analog-Devices-Maxim-Integrated/DS1302S%2b?qs=0Y9aZN%252BMVCWU8gw7pnisYw%3D%3D; Arrow Part Number: DS1302S+; Arrow Price/Stock: https://www.arrow.com/en/products/ds1302s/analog-devices?region=nac
footprint SOIC127P787X228-8N
pins: 1 VCC2, 2 X1, 3 X2, 4 GND, 5 RST, 6 SCL, 7 SDA, 8 VCC1

## DS1307
designator IC?
RTC chip, 5V, 64 x 8, Serial, I2C; Manufacturer_Name: Analog Devices; Datasheet Link: https://static.chipdip.ru/lib/834/DOC003834620.pdf; Height: 2.28mm; Manufacturer_Part_Number: DS1307; Mouser Part Number: 700-DS1302S; Mouser Price/Stock: https://www.mouser.co.uk/ProductDetail/Analog-Devices-Maxim-Integrated/DS1302S%2b?qs=0Y9aZN%252BMVCWU8gw7pnisYw%3D%3D; Arrow Part Number: DS1302S+; Arrow Price/Stock: https://www.arrow.com/en/products/ds1302s/analog-devices?region=nac
footprint SOIC127P787X228-8N
pins: 1 X1, 2 X2, 3 VBAT, 4 GND, 5 SDA, 6 SCL, 7 SQW/OUT, 8 VCC

## DS1307Z+
designator IC?
Integrated Circuit; Manufacturer_Name: Analog Devices; Manufacturer_Part_Number: DS1307Z+; Datasheet Link: http://datasheets.maximintegrated.com/en/ds/DS1307.pdf; Height: 1.75mm; Mouser Part Number: 700-DS1307Z; Mouser Price/Stock: https://www.mouser.co.uk/ProductDetail/Analog-Devices-Maxim-Integrated/DS1307Z%2b?qs=0Y9aZN%252BMVCUvNDMAh9aCtw%3D%3D; Arrow Part Number: DS1307Z+; Arrow Price/Stock: https://www.arrow.com/en/products/ds1307z/analog-devices?utm_currency=USD&region=nac
footprint SOIC127P600X175-8N
pins: 1 X1, 2 X2, 3 VBAT, 4 GND, 5 SDA, 6 SCL, 7 SQW/OUT, 8 VCC

## DS3231
designator IC?
RTC chip, 3V3, I2C, Integrated Crystal; Manufacturer_Name: Analog Devices; Datasheet Link: https://www.elitan.ru/pdf/0/1/5/7/2/01572100.pdf; Height: 2.28mm; Manufacturer_Part_Number: DS3231
footprint SOIC127P1030X265-16N
pins: 1 32kHz, 2 VCC, 3 ~{INT}/SQW, 4 ~{RST}, 13 GND, 14 VBAT, 15 SDA, 16 SCL

## DS-212
designator J?
DC Barrel Dragon City; Manufacturer_Name: TE Connectivity; Manufacturer_Part_Number: 292303-1; Datasheet Link: http://docs-asia.electrocomponents.com/webdocs/06d0/0900766b806d08c4.pdf; Mouser Part Number: 571-292303-1; Mouser Price/Stock: https://www.mouser.co.uk/ProductDetail/TE-Connectivity/292303-1?qs=G%2F5vCLrg9vx2OsUPTgR%2F%252BQ%3D%3D; Arrow Part Number: 292303-1; Arrow Price/Stock: https://www.arrow.com/en/products/292303-1/te-connectivity?region=nac
footprint DS_212 (DC Barrel Jack)
pins: 1, 2, 3

## DSC1033CI1-001.0000
designator Y?
Crystal or Oscillator; Manufacturer_Name: Microchip; Manufacturer_Part_Number: DSC1033CI1-001.0000; Datasheet Link: https://componentsearchengine.com/Datasheets/1/DSC1033CI1-001.0000.pdf; Height: 0.9mm; Mouser Part Number: 579-C1033CI10010000; Mouser Price/Stock: https://www.mouser.com/Search/Refine.aspx?Keyword=579-C1033CI10010000; Arrow Part Number: DSC1033CI1-001.0000; Arrow Price/Stock: https://www.arrow.com/en/products/dsc1033ci1-001.0000/microchip-technology
footprint DSC1033CI10010000
pins: 1 STANDBY#, 2 GND, 3 OUTPUT, 4 VDD

## DSK-3R3H224U-HL
designator C?
Capacitor Polarised; Manufacturer_Name: Elna; Manufacturer_Part_Number: DSK-3R3H224U-HL; Datasheet Link: https://componentsearchengine.com/Datasheets/1/DSK-3R3H224U-HL.pdf; Height: 3mm; Mouser Part Number: 555-DSK3R3H224U-HL; Mouser Price/Stock: https://www.mouser.co.uk/ProductDetail/Elna/DSK-3R3H224U-HL?qs=QQsyD2Kvh2ftLwsh6FwcaA%3D%3D
footprint DSK3R3H334THL
pins: 1 +, 2 -

## DSM1-1211
designator PS?
Power Supply; Manufacturer_Name: PAIRUI; Manufacturer_Part_Number: DSM1-0311; Datasheet Link: https://static.chipdip.ru/lib/227/DOC013227182.pdf; Height: 6.5mm; Arrow Part Number: DSM1-0311
footprint SOP254P1120X650-8N
pins: 1 V_IN-, 2 V_IN+, 4 V_OUT-, 5 V_OUT+

## DSX321G-25M
designator Y?, comment DSX321G-25M-12P
Crystal or Oscillator; Manufacturer_Name: KDS Daishinku; Datasheet Link: https://datasheet.lcsc.com/szlcsc/KDS-Daishinku-KDS-DSX321G-20M_C110936.pdf; Height: 1mm; Manufacturer_Part_Number: DSX321G-25M
footprint DSX321G20M
pins: 1, 2 GND, 3, 4 GND

## DT-26_32.768KHz
designator Y?
Crystal or Oscillator; Manufacturer_Name: KDS Daishinku; Manufacturer_Part_Number: DT-26 32.768KHz; Datasheet Link: https://datasheet.lcsc.com/szlcsc/KDS-Daishinku-KDS-32-768KHz-12-5PF-20ppm_C93229.pdf; Height: 6.1mm
footprint DT-26_LAY
footprint DT26_STAND
pins: 1 CRYSTAL_1, 2 CRYSTAL_2

## DT-38_32.768KHz
designator Y?
Crystal or Oscillator; Manufacturer_Name: KDS Daishinku; Manufacturer_Part_Number: DT-38 32.768KHz; Datasheet Link: https://datasheet.lcsc.com/szlcsc/KDS-Daishinku-KDS-32-768KHz-12-5PF-20ppm_C93228.pdf; Height: 8.3mm
footprint DT3832768KHz
pins: 1 CRYSTAL_1, 2 CRYSTAL_2

## DTC114ECAHZGT116
designator Q?
Transistor RET NPN; Manufacturer_Name: ROHM Semiconductor; Manufacturer_Part_Number: DTC114ECAHZGT116; Datasheet Link: http://rohmfs.rohm.com/en/products/databook/datasheet/discrete/transistor/digital/dtc114ecahzg-e.pdf; Height: 1.2mm; Mouser Part Number: 755-DTC114ECAHZGT116; Mouser Price/Stock: https://www.mouser.co.uk/ProductDetail/ROHM-Semiconductor/DTC114ECAHZGT116?qs=4v%252BiZTmLVHHtk2EK1z3Tyg%3D%3D
footprint RK7002BMT116
pins: 1 E, 2 B, 3 C

## ECMF02-2AMX6
designator IC?
Integrated Circuit; Manufacturer_Name: STMicroelectronics; Manufacturer_Part_Number: ECMF02-2AMX6; Datasheet Link: https://www.st.com/resource/en/datasheet/ecmf02-2amx6.pdf; Height: 0.55mm; Mouser Part Number: 511-ECMF02-2AMX6; Mouser Price/Stock: https://www.mouser.co.uk/ProductDetail/STMicroelectronics/ECMF02-2AMX6?qs=raAh8RbVwI65u5gmT42%2Flg%3D%3D; Arrow Part Number: ECMF02-2AMX6; Arrow Price/Stock: https://www.arrow.com/en/products/ecmf02-2amx6/stmicroelectronics?utm_currency=USD&region=nac
footprint SON50P150X170X55-6N-D
pins: 1 D_1, 2 D_2, 3 GND, 4 NC, 5 D-, 6 D+

## EDISON LOGO
designator LOGO  (no BOM)
footprint EDISON LOGO
text: EDISON

## EEE-1JA470UP
designator C?, comment 47UF 63V
CAP ALUM 47UF 20% 63V SMD; Manufacturer_Name: Panasonic; Manufacturer_Part_Number: EEE-1JA470UP; Datasheet Link: http://industrial.panasonic.com/cdbs/www-data/pdf/RDE0000/ABA0000C1145.pdf; Height: 10.8mm; Mouser Part Number: 667-EEE-1JA470UP; Mouser Price/Stock: https://www.mouser.co.uk/ProductDetail/Panasonic/EEE-1JA470UP?qs=wEytwf7f49GdNyH4Gsu9jA%3D%3D; Arrow Part Number: EEE-1JA470UP; Arrow Price/Stock: https://www.arrow.com/en/products/eee-1ja470up/panasonic?region=nac
footprint EEHZT1E331UP
pins: 1 +, 2 -

## EEE-FK1E471P
designator C?, comment 470UF 25V
CAP ALUM 470UF 20% 25V SMD; Manufacturer_Name: Panasonic; Manufacturer_Part_Number: EEE-FK1E471P; Datasheet Link: http://industrial.panasonic.com/cdbs/www-data/pdf/RDE0000/ABA0000C1181.pdf; Mouser Part Number: 667-EEE-FK1E471P; Mouser Price/Stock: https://www.mouser.co.uk/ProductDetail/Panasonic/EEE-FK1E471P?qs=qE6bgDGEOCvvsolWS4cebg%3D%3D; Arrow Part Number: EEE-FK1E471P; Arrow Price/Stock: https://www.arrow.com/en/products/eee-fk1e471p/panasonic?region=europe
footprint EEEFK1V331P
pins: 1 +, 2 -

## EEE-FK1H470V
designator C?, comment 47UF 50V
CAP ALUM 47UF 20% 50V SMD; Manufacturer_Name: Panasonic; Manufacturer_Part_Number: EEE-FK1H470V; Datasheet Link: http://industrial.panasonic.com/cdbs/www-data/pdf/RDE0000/ABA0000C1181.pdf; Height: 6.5mm; Mouser Part Number: 667-EEE-FK1H470V; Mouser Price/Stock: https://www.mouser.co.uk/ProductDetail/Panasonic/EEE-FK1H470V?qs=GoZnPdyRfjYe051AhEzASQ%3D%3D; Arrow Part Number: EEE-FK1H470V; Arrow Price/Stock: https://www.arrow.com/en/products/eeefk1h470v/panasonic
footprint EEEFP0J331AV
pins: 1 +, 2 -

## EEE-FK1V471SP
designator C?, comment 470uF 35V W10mm
CAP ALUM 470UF 20% 35V SMD D10H10.5; Manufacturer_Name: Panasonic; Manufacturer_Part_Number: EEE-FK1V471SP; Datasheet Link: http://industrial.panasonic.com/cdbs/www-data/pdf/RDE0000/ABA0000C1251.pdf; Height: 12mm; Mouser Part Number: 667-EEE-FK1V471SP; Mouser Price/Stock: https://www.mouser.co.uk/ProductDetail/Panasonic/EEE-FK1V471SP?qs=zOMD8z%2Fhl68xqw9uR0oqiw%3D%3D; Arrow Part Number: EEE-FK1V471SP; Arrow Price/Stock: https://www.arrow.com/en/products/eee-fk1v471sp/panasonic?region=nac
footprint EEE0JA152UAP
pins: 1 +, 2 -

## EEE-FT1H470AP
designator C?, comment 47UF 50V
CAP ALUM 47UF 20% 50V SMD; Manufacturer_Name: Panasonic; Manufacturer_Part_Number: EEE-FT1H470AP; Datasheet Link: http://industrial.panasonic.com/cdbs/www-data/pdf/RDE0000/ABA0000C1240.pdf; Height: 7.8mm; Mouser Part Number: 667-EEE-FT1H470AP; Mouser Price/Stock: https://www.mouser.co.uk/ProductDetail/Panasonic/EEE-FT1H470AP?qs=CMJjuEs1%252BuGwCsNIEusjpA%3D%3D; Arrow Part Number: EEE-FT1H470AP; Arrow Price/Stock: https://www.arrow.com/en/products/eeeft1h470ap/panasonic?utm_currency=USD&region=nac
footprint EEE1AA101SP
pins: 1 +, 2 -

## EEE-HB1H470P
designator C?, comment 47UF 50V
CAP ALUM 47UF 20% 50V SMD; Manufacturer_Name: Panasonic; Manufacturer_Part_Number: EEE-HB1H470P; Datasheet Link: http://industrial.panasonic.com/cdbs/www-data/pdf/RDE0000/ABA0000C1157.pdf; Height: 12mm
footprint EEE0JA152UAP
pins: 1 +, 2 -

## EEE-TK2A101AM
designator C?, comment 100UF 100V
CAP ALUM 100UF 20% 100V SMD; Manufacturer_Name: Panasonic; Manufacturer_Part_Number: EEE-TK2A101AM; Datasheet Link: http://industrial.panasonic.com/cdbs/www-data/pdf/RDE0000/ABA0000C1190.pdf; Height: 17mm; Mouser Part Number: 667-EEE-TK2A101AM; Mouser Price/Stock: https://www.mouser.co.uk/ProductDetail/Panasonic/EEE-TK2A101AM?qs=tqvsmoK%252ByvGs76kdkQg9LQ%3D%3D; Arrow Part Number: EEE-TK2A101AM; Arrow Price/Stock: https://www.arrow.com/en/products/eee-tk2a101am/panasonic
footprint EEEFK0J682AM
pins: 1 +, 2 -

## EEV-FK2A101V
designator C?
Capacitor Polarised; Manufacturer_Name: Panasonic; Manufacturer_Part_Number: EEV-FK2A101V; Datasheet Link: http://industrial.panasonic.com/cdbs/www-data/pdf/RDE0000/ABA0000C1181.pdf; Height: 16.8mm; Mouser Part Number: 667-EEV-FK2A101V; Mouser Price/Stock: https://www.mouser.co.uk/ProductDetail/Panasonic/EEV-FK2A101V?qs=MtOUKumLmnaVkoWQWMGNWA%3D%3D
footprint EEEFK0J682AV
pins: 1 +, 2 -

## EEV-FK2A221V
designator C?
Capacitor Polarised; Manufacturer_Name: Panasonic; Manufacturer_Part_Number: EEV-FK2A221V; Datasheet Link: http://industrial.panasonic.com/cdbs/www-data/pdf/RDE0000/ABA0000C1181.pdf; Height: 17.3mm; Mouser Part Number: 667-EEV-FK2A221V; Mouser Price/Stock: https://www.mouser.co.uk/ProductDetail/Panasonic/EEV-FK2A221V?qs=MtOUKumLmnbViHOncnEZJA%3D%3D
footprint EEEFK0J103SV
pins: 1 +, 2 -

## EL357N-B-TA-G
designator IC?
Integrated Circuit; Manufacturer_Name: Everlight Elec; Manufacturer_Part_Number: EL357N-B-TA-G; Datasheet Link: https://datasheet.lcsc.com/szlcsc/1809192312_Everlight-Elec-EL357N-B-TA-G_C6649.pdf; Height: 2mm; LCSC Part #: C725794
footprint SOP254P700X200-4N
pins: 1 A, 2 C, 3 E, 4 C

## EL817_S1__D__TA_-VG
designator Q?
Transistor; Manufacturer_Name: Everlight; Manufacturer_Part_Number: EL817(S1)(D)(TA)-VG; Datasheet Link: http://www.mouser.com/ds/2/143/201407061834389632-598371.pdf; Height: 3.9mm; Mouser Part Number: 638-EL817S1DTA-VG; Mouser Price/Stock: https://www.mouser.co.uk/ProductDetail/Everlight/EL817S1DTA-VG?qs=8PzhAHr7IdOwcx8dMEEN7g%3D%3D
footprint SOP254P1030X390-4N
pins: 1 ANODE, 2 CATHODE, 3 EMITTER, 4 COLLECTOR

## EL817S1
designator U?, comment EL817
OPTOISOLATOR 5KV 1CH TRANS 4-SMD; Value: EL817
footprint SOP254P1016X460-4N
pins: 1, 2, 3, 4

## EP1C3T100C8N
designator IC?
Integrated Circuit; Manufacturer_Name: Intel; Manufacturer_Part_Number: EP1C3T100C8N; Datasheet Link: https://media.digikey.com/pdf/Data%20Sheets/Altera%20PDFs/Cyclone_FPGA_Family.pdf; Height: 1.2mm; Mouser Part Number: 989-EP1C3T100C8N; Mouser Price/Stock: https://www.mouser.co.uk/ProductDetail/Intel-Altera/EP1C3T100C8N?qs=P2rvyRAZsYhrWhd9QNt1Qg%3D%3D; Arrow Part Number: EP1C3T100C8N; Arrow Price/Stock: https://www.arrow.com/en/products/ep1c3t100c8n/intel?region=nac
footprint QFP50P1600X1600X120-100N
pins: 1 IO_1, 2 IO_2, 3 IO_3, 4 IO_4, 5 IO_5, 6 IO_6, 7 DATA0, 8 NCONFIG, 9 VCCA_PLL1, 10 CLK0, 11 GNDA_PLL1, 12 NCEO, 13 NCE, 14 MSEL0, 15 MSEL1, 16 DCLK, 17 IO_7, 18 VCCIO1, 19 GND_1, 20 IO_8, 21 IO_9, 22 IO_10, 23 IO_11, 24 IO_12, 25 IO_13, 26 IO_14, 27 IO_15, 28 IO_16, 29 IO_17, 30 GND_2, 31 VCCIO4_1, 32 GND_3, 33 VCCINT_1, 34 IO_18, 35 IO_19, 36 IO_20, 37 IO_21, 38 IO_22, 39 IO_23, 40 IO_24, 41 IO_25, 42 IO_26, 43 GND_4, 44 VCCINT_2, 45 GND_5, 46 VCCIO4_2, 47 IO_27, 48 IO_28, 49 IO_29, 50 IO_30, 51 IO_31, 52 IO_32, 53 IO_33, 54 IO_34, 55 IO_35, 56 IO_36, 57 IO_37, 58 GND_6, 59 VCCIO3, 60 CONF_DONE, 61 NSTATUS, 62 TCK, 63 TMS, 64 TDO, 65 IO_38, 66 CLK2, 67 TDI, 68 IO_39, 69 IO_40, 70 IO_41, 71 IO_42, 72 IO_43, 73 IO_44, 74 IO_45, 75 IO_46, 76 IO_47, 77 IO_48, 78 IO_49, 79 IO_50, 80 VCCIO2_1, 81 GND_7, 82 VCCINT_3, 83 GND_8, 84 IO_51, 85 IO_52, 86 IO_53, 87 IO_54, 88 IO_55, 89 IO_56, 90 IO_57, 91 IO_58, 92 IO_59, 93 VCCINT_4, 94 GND_9, 95 VCCIO2_2, 96 GND_10, 97 IO_60, 98 IO_61, 99 IO_62, 100 IO_63

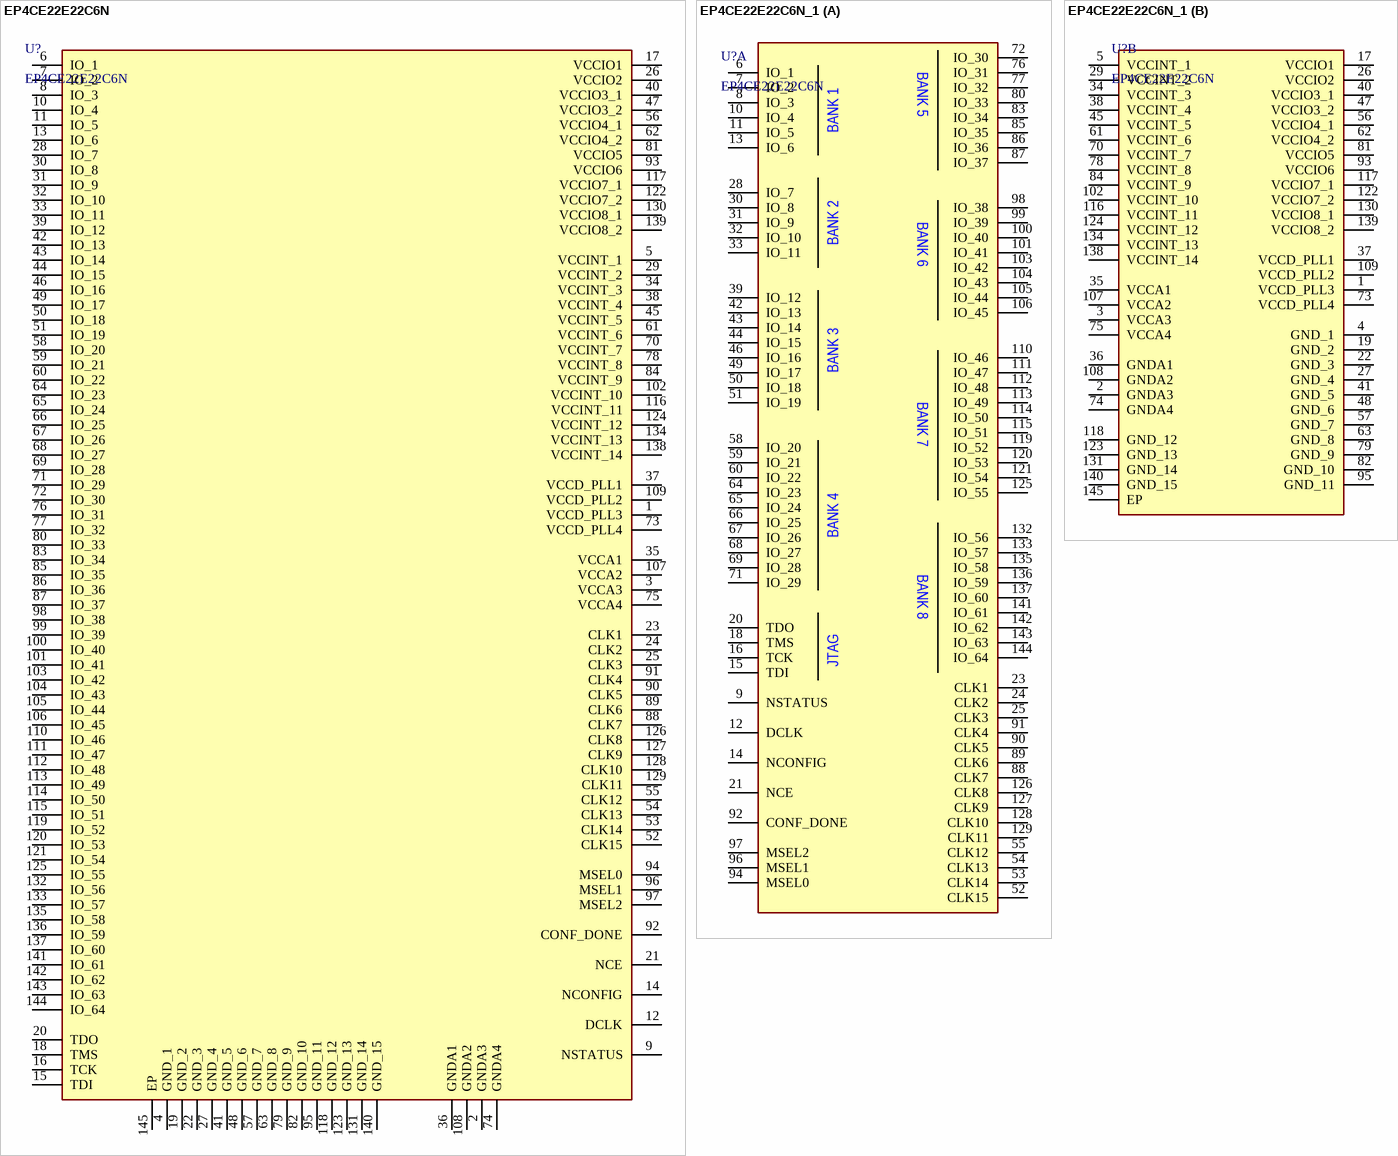
[diagram p17: symbols EP4CE22E22C6N to EP4CE22E22C6N_1]

## EP4CE22E22C6N
designator U?
IC FPGA 79 I/O 144EQFP; Manufacturer_Name: Intel; Datasheet Link: https://www.intel.com/content/dam/www/programmable/us/en/pdfs/literature/packaging/04r00485-02.pdf; Height: 1.65mm; Manufacturer_Part_Number: EP4CE22E22C6N; Mouser Part Number: 989-EP4CE22E22C6N; Mouser Price/Stock: https://www.mouser.co.uk/ProductDetail/Intel-Altera/EP4CE22E22C6N?qs=jblrfmjbeiGU1x21hO7i%252BQ%3D%3D; Arrow Part Number: EP4CE22E22C6N; Arrow Price/Stock: https://www.arrow.com/en/products/ep4ce22e22c6n/intel
footprint QFP50P2200X2200X165-145N
pins: 1 VCCD_PLL3, 2 GNDA3, 3 VCCA3, 4 GND_1, 5 VCCINT_1, 6 IO_1, 7 IO_2, 8 IO_3, 9 NSTATUS, 10 IO_4, 11 IO_5, 12 DCLK, 13 IO_6, 14 NCONFIG, 15 TDI, 16 TCK, 17 VCCIO1, 18 TMS, 19 GND_2, 20 TDO, 21 NCE, 22 GND_3, 23 CLK1, 24 CLK2, 25 CLK3, 26 VCCIO2, 27 GND_4, 28 IO_7, 29 VCCINT_2, 30 IO_8, 31 IO_9, 32 IO_10, 33 IO_11, 34 VCCINT_3, 35 VCCA1, 36 GNDA1, 37 VCCD_PLL1, 38 VCCINT_4, 39 IO_12, 40 VCCIO3_1, 41 GND_5, 42 IO_13, 43 IO_14, 44 IO_15, 45 VCCINT_5, 46 IO_16, 47 VCCIO3_2, 48 GND_6, 49 IO_17, 50 IO_18, 51 IO_19, 52 CLK15, 53 CLK14, 54 CLK13, 55 CLK12, 56 VCCIO4_1, 57 GND_7, 58 IO_20, 59 IO_21, 60 IO_22, 61 VCCINT_6, 62 VCCIO4_2, 63 GND_8, 64 IO_23, 65 IO_24, 66 IO_25, 67 IO_26, 68 IO_27, 69 IO_28, 70 VCCINT_7, 71 IO_29, 72 IO_30, 73 VCCD_PLL4, 74 GNDA4, 75 VCCA4, 76 IO_31, 77 IO_32, 78 VCCINT_8, 79 GND_9, 80 IO_33, 81 VCCIO5, 82 GND_10, 83 IO_34, 84 VCCINT_9, 85 IO_35, 86 IO_36, 87 IO_37, 88 CLK7, 89 CLK6, 90 CLK5, 91 CLK4, 92 CONF_DONE, 93 VCCIO6, 94 MSEL0, 95 GND_11, 96 MSEL1, 97 MSEL2, 98 IO_38, 99 IO_39, 100 IO_40, 101 IO_41, 102 VCCINT_10, 103 IO_42, 104 IO_43, 105 IO_44, 106 IO_45, 107 VCCA2, 108 GNDA2, 109 VCCD_PLL2, 110 IO_46, 111 IO_47, 112 IO_48, 113 IO_49, 114 IO_50, 115 IO_51, 116 VCCINT_11, 117 VCCIO7_1, 118 GND_12, 119 IO_52, 120 IO_53, 121 IO_54, 122 VCCIO7_2, 123 GND_13, 124 VCCINT_12, 125 IO_55, 126 CLK8, 127 CLK9, 128 CLK10, 129 CLK11, 130 VCCIO8_1, 131 GND_14, 132 IO_56, 133 IO_57, 134 VCCINT_13, 135 IO_58, 136 IO_59, 137 IO_60, 138 VCCINT_14, 139 VCCIO8_2, 140 GND_15, 141 IO_61, 142 IO_62, 143 IO_63, 144 IO_64, 145 EP

## EP4CE22E22C6N_1
designator U?, comment EP4CE22E22C6N
IC FPGA 79 I/O 144EQFP; Manufacturer_Name: Intel; Datasheet Link: https://www.intel.com/content/dam/www/programmable/us/en/pdfs/literature/packaging/04r00485-02.pdf; Height: 1.65mm; Manufacturer_Part_Number: EP4CE22E22C6N; Mouser Part Number: 989-EP4CE22E22C6N; Mouser Price/Stock: https://www.mouser.co.uk/ProductDetail/Intel-Altera/EP4CE22E22C6N?qs=jblrfmjbeiGU1x21hO7i%252BQ%3D%3D; Arrow Part Number: EP4CE22E22C6N; Arrow Price/Stock: https://www.arrow.com/en/products/ep4ce22e22c6n/intel
footprint QFP50P2200X2200X165-145N
part A pins: 6 IO_1, 7 IO_2, 8 IO_3, 9 NSTATUS, 10 IO_4, 11 IO_5, 12 DCLK, 13 IO_6, 14 NCONFIG, 15 TDI, 16 TCK, 18 TMS, 20 TDO, 21 NCE, 23 CLK1, 24 CLK2, 25 CLK3, 28 IO_7, 30 IO_8, 31 IO_9, 32 IO_10, 33 IO_11, 39 IO_12, 42 IO_13, 43 IO_14, 44 IO_15, 46 IO_16, 49 IO_17, 50 IO_18, 51 IO_19, 52 CLK15, 53 CLK14, 54 CLK13, 55 CLK12, 58 IO_20, 59 IO_21, 60 IO_22, 64 IO_23, 65 IO_24, 66 IO_25, 67 IO_26, 68 IO_27, 69 IO_28, 71 IO_29, 72 IO_30, 76 IO_31, 77 IO_32, 80 IO_33, 83 IO_34, 85 IO_35, 86 IO_36, 87 IO_37, 88 CLK7, 89 CLK6, 90 CLK5, 91 CLK4, 92 CONF_DONE, 94 MSEL0, 96 MSEL1, 97 MSEL2, 98 IO_38, 99 IO_39, 100 IO_40, 101 IO_41, 103 IO_42, 104 IO_43, 105 IO_44, 106 IO_45, 110 IO_46, 111 IO_47, 112 IO_48, 113 IO_49, 114 IO_50, 115 IO_51, 119 IO_52, 120 IO_53, 121 IO_54, 125 IO_55, 126 CLK8, 127 CLK9, 128 CLK10, 129 CLK11, 132 IO_56, 133 IO_57, 135 IO_58, 136 IO_59, 137 IO_60, 141 IO_61, 142 IO_62, 143 IO_63, 144 IO_64
part B pins: 1 VCCD_PLL3, 2 GNDA3, 3 VCCA3, 4 GND_1, 5 VCCINT_1, 17 VCCIO1, 19 GND_2, 22 GND_3, 26 VCCIO2, 27 GND_4, 29 VCCINT_2, 34 VCCINT_3, 35 VCCA1, 36 GNDA1, 37 VCCD_PLL1, 38 VCCINT_4, 40 VCCIO3_1, 41 GND_5, 45 VCCINT_5, 47 VCCIO3_2, 48 GND_6, 56 VCCIO4_1, 57 GND_7, 61 VCCINT_6, 62 VCCIO4_2, 63 GND_8, 70 VCCINT_7, 73 VCCD_PLL4, 74 GNDA4, 75 VCCA4, 78 VCCINT_8, 79 GND_9, 81 VCCIO5, 82 GND_10, 84 VCCINT_9, 93 VCCIO6, 95 GND_11, 102 VCCINT_10, 107 VCCA2, 108 GNDA2, 109 VCCD_PLL2, 116 VCCINT_11, 117 VCCIO7_1, 118 GND_12, 122 VCCIO7_2, 123 GND_13, 124 VCCINT_12, 130 VCCIO8_1, 131 GND_14, 134 VCCINT_13, 138 VCCINT_14, 139 VCCIO8_2, 140 GND_15, 145 EP
part A text: BANK 5; BANK 1; BANK 2; BANK 6; BANK 3; BANK 7; BANK 4; BANK 8; JTAG

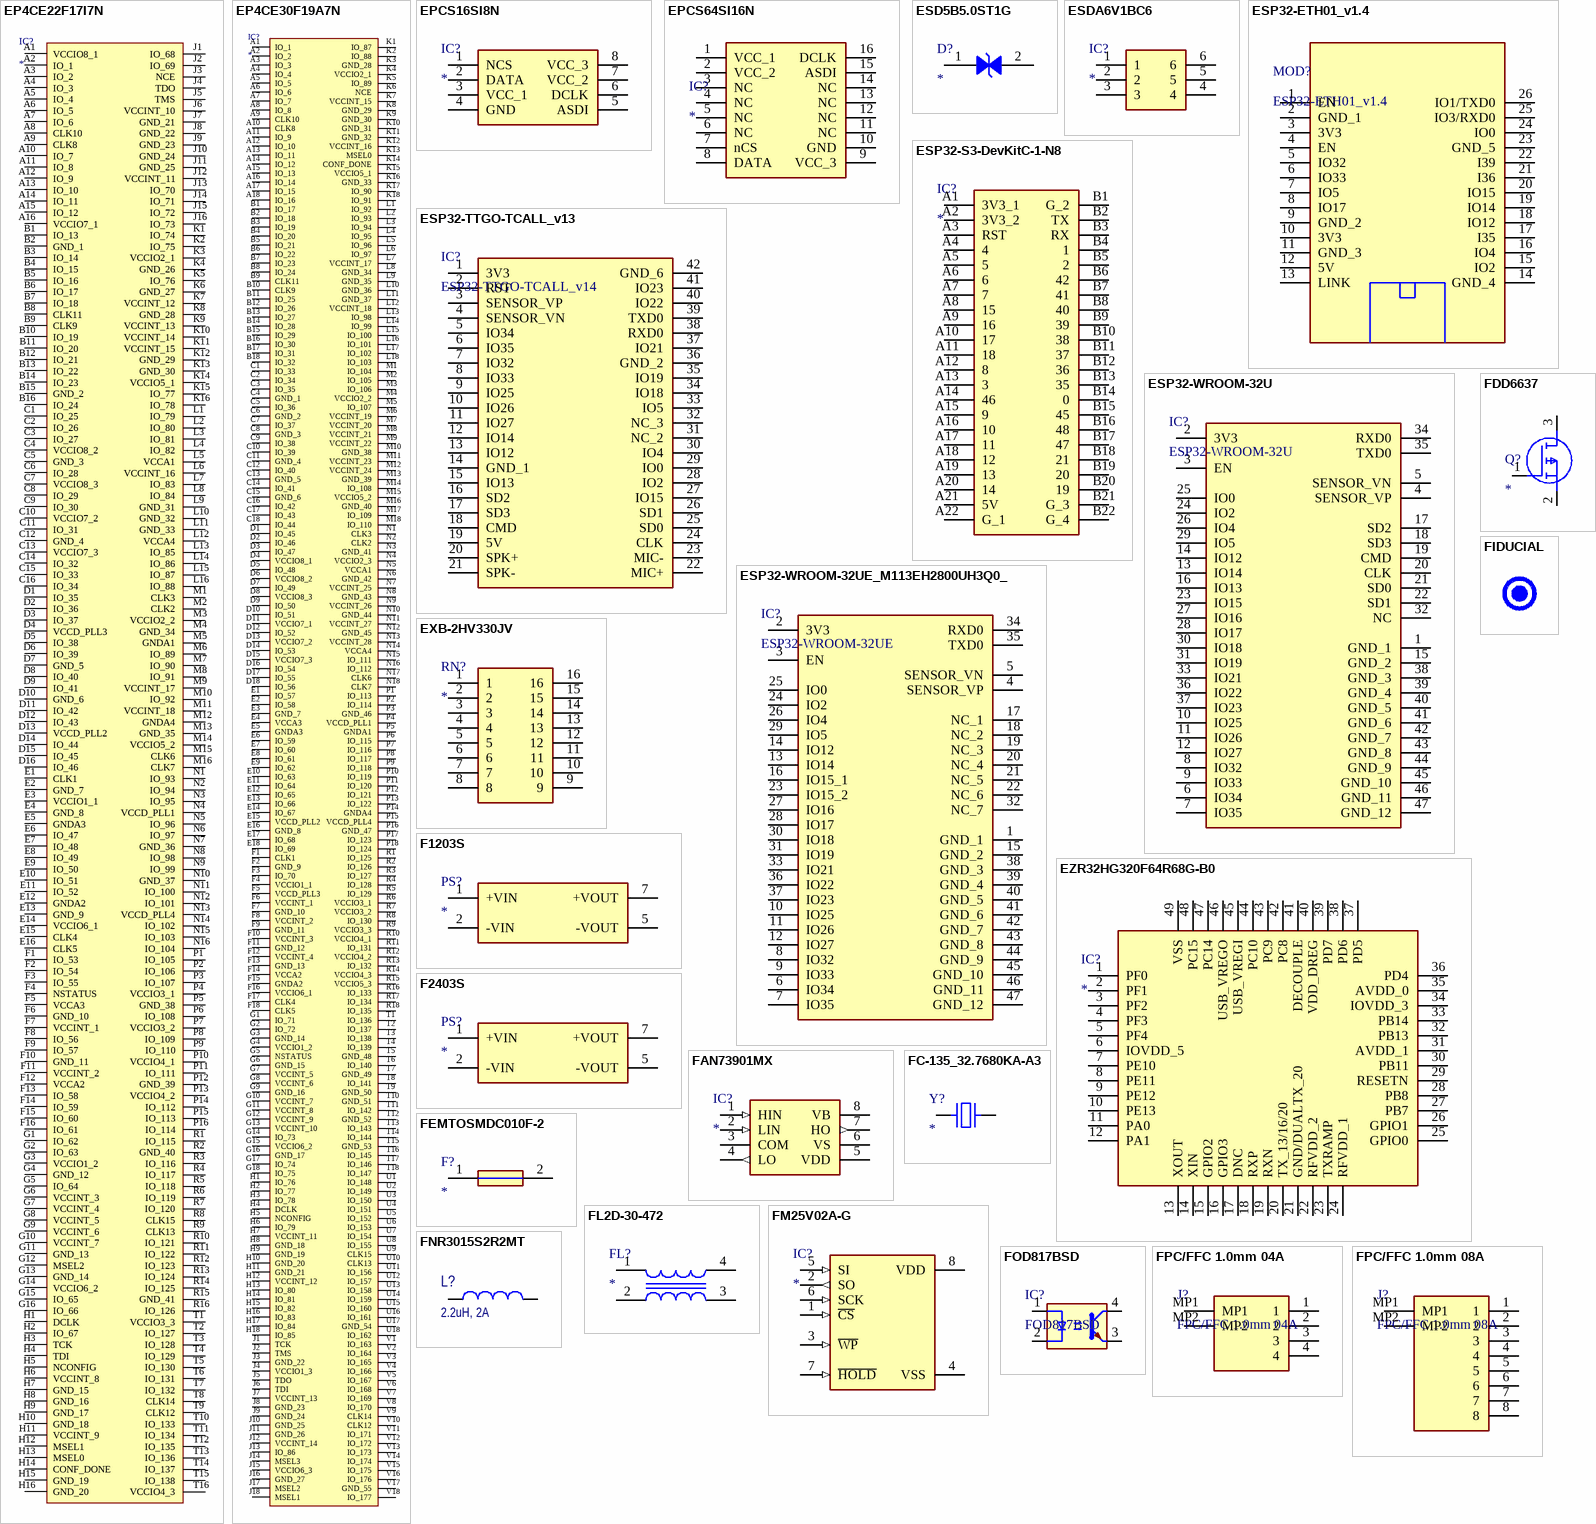
[diagram p18: symbols EP4CE22F17I7N to FPC/FFC 1.0mm 08A]